# Altium integrated library STMicro-STM32F0.IntLib: 143 symbols (part 9 of 11)
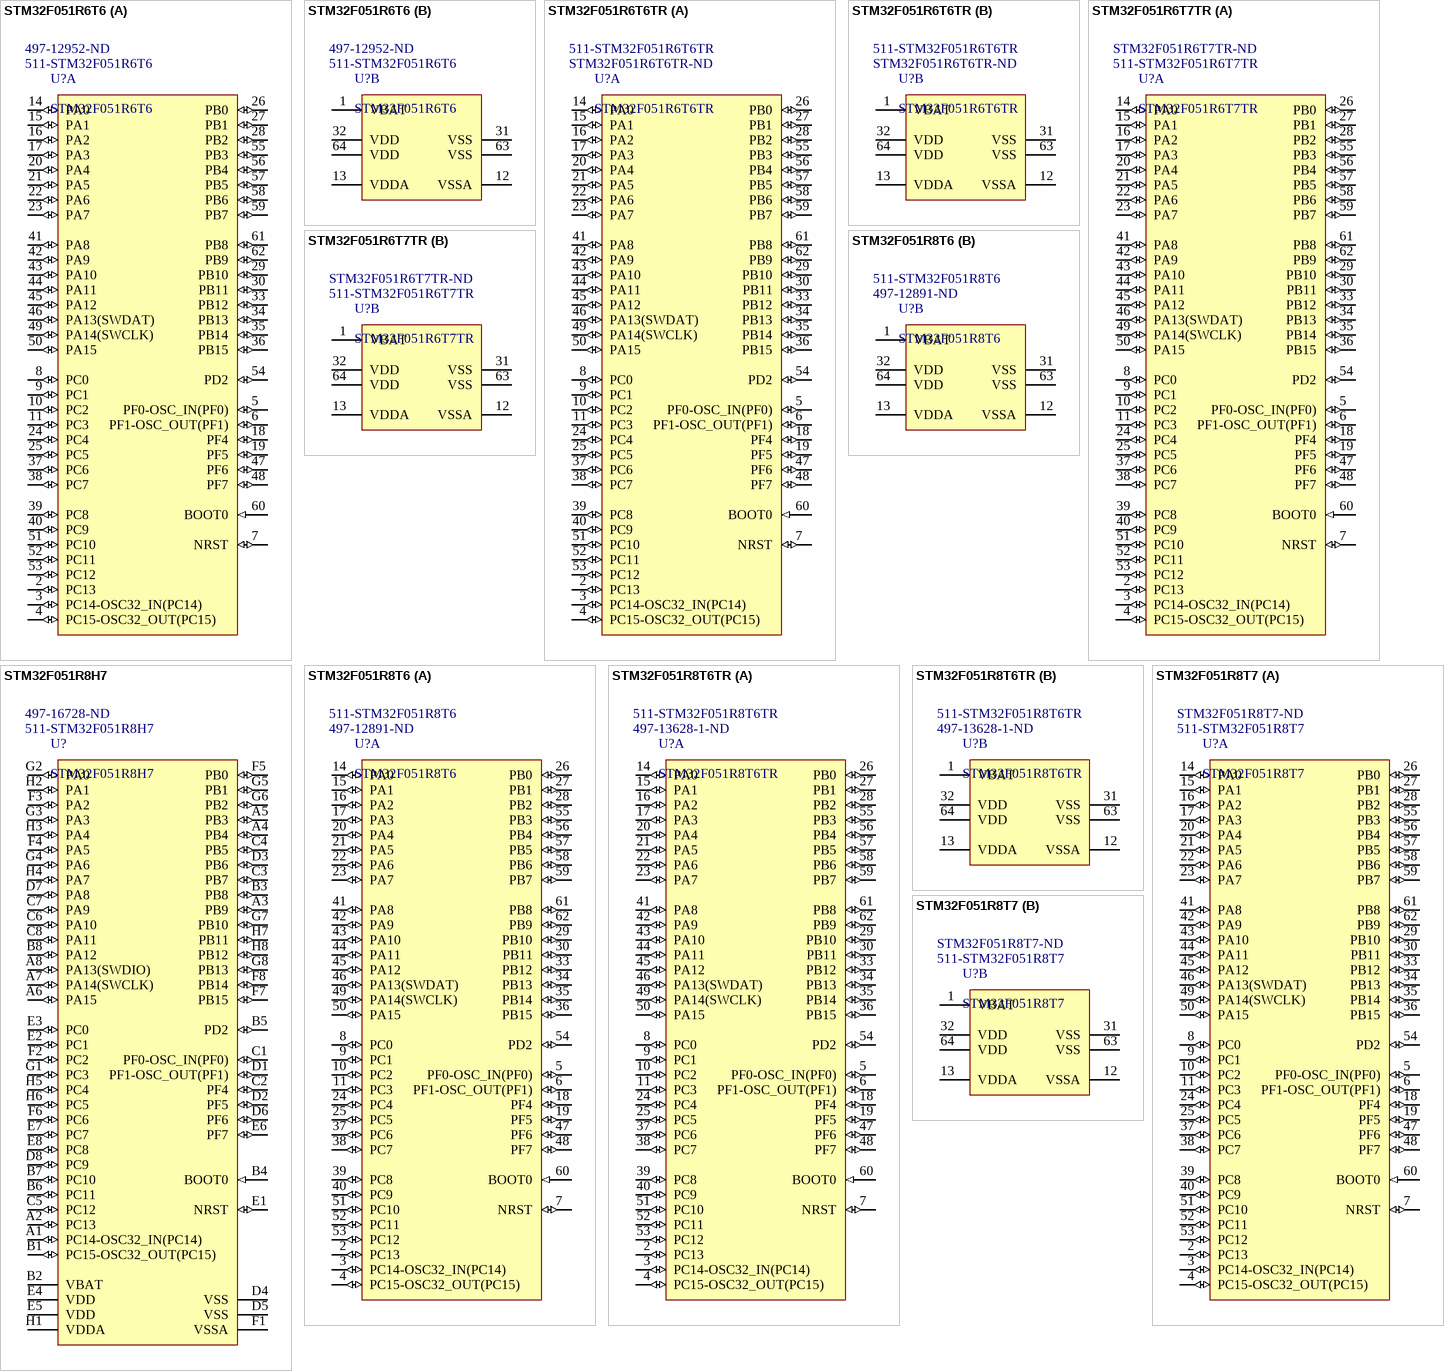
[diagram p22: symbols STM32F051R6T6 to STM32F051R8T7]

## STM32F051R8T7
designator U?  Supplier Part Number 1: 511-STM32F051R8T7  Supplier Part Number 2: STM32F051R8T7-ND
ARM Cortex-M0 32-bit MCU, 64 KB Flash, 8 KB Internal RAM, 55 I/Os, 64-pin LQFP, -40 to 105 degC, Tray; Internal RAM Size (kB): 8; Supply Voltage(Vcc) min (V): 2; FLASH Size (Prog) (kB): 64; Operating Frequency(F) (Processor speed) (MHz): 48; I/Os (High Current): 55; ComponentLink1URL: http://www.st.com/web/en/home.html; PackageVersion: Rev. 4, 06/2013; ComponentLink3Description: Package Specification; ComponentLink2URL: http://www.st.com/st-web-ui/static/active/en/resource/technical/document/datasheet/DM00039193.pdf; Mounting Technology: Surface Mount; Core: ARM Cortex-M0; ComponentLink2Description: Datasheet; Packing: Tray; PartNumber: STM32F051R8T7; PackageReference: LQFP64; PackageDescription: 64-Pin Low Profile Quad Flat Package, 10 x 10 mm Body, 0.5 mm Pitch; DatasheetVersion: Rev. 3; ComponentLink3URL: http://www.st.com/st-web-ui/static/active/en/resource/technical/document/datasheet/DM00037051.pdf; ComponentLink1Description: Manufacturer URL; Supplier 1: Mouser; Supplier 2: Digi-Key
footprint STM-LQFP64_L (QFP, 64-Leads, Body 10x10mm, Pitch 0.5mm, IPC High Density)
footprint STM-LQFP64_N (QFP, 64-Leads, Body 10x10mm, Pitch 0.5mm, IPC Medium Density)
footprint STM-LQFP64_V (Thin QFP, 64-Leads, Body 10x10mm, Pitch 0.5mm, ST Recommended)
footprint STM-LQFP64_M (QFP, 64-Leads, Body 10x10mm, Pitch 0.5mm, IPC Low Density)
part A pins: 2 PC13 (io) "PC13/RTC_TAMP1,RTC_TS,RTC_OUT,WKUP2", 3 PC14-OSC32_IN(PC14) (io) "PC14-OSC32_IN(PC14)/OSC32_IN", 4 PC15-OSC32_OUT(PC15) (io) "PC15-OSC32_OUT(PC15)/OSC32_OUT", 5 PF0-OSC_IN(PF0) (io) "PF0-OSC_IN(PF0)/OSC_IN", 6 PF1-OSC_OUT(PF1) (io) "PF1-OSC_OUT(PF1)/OSC_OUT", 7 NRST (io) "Device reset input / internal reset output (active low)", 8 PC0 (io) "PB15/SPI2_MOSI,TIM1_CH3N,TIM15_CH1N,TIM15_CH2/RTC_REFIN", 9 PC1 (io) "PC1/EVENTOUT/ADC_IN11", 10 PC2 (io) "PC2/EVENTOUT/ADC_IN12", 11 PC3 (io) "PC3/EVENTOUT/ADC_IN13", 14 PA0 (io) "PA0/USART2_CTS,TIM2_CH1_ETR,COMP1_OUT,TSC_G1_IO1/ADC_IN0,COMP1_INM6,RTC_TAMP2,WKUP1", 15 PA1 (io) "PA1/USART2_RTS,TIM2_CH2,TSC_G1_IO2,EVENTOUT/ADC_IN1,COMP1_INP", 16 PA2 (io) "PA2/USART2_TX,TIM2_CH3,TIM15_CH1,COMP2_OUT,TSC_G1_IO3/ADC_IN2,COMP2_INM6", 17 PA3 (io) "PA3/USART2_RX,TIM2_CH4,TIM15_CH2,TSC_G1_IO4/ADC_IN3,COMP2_INP", 18 PF4 (io) "PF4/EVENTOUT", 19 PF5 (io) "PF5/EVENTOUT", 20 PA4 (io) "PA4/SPI1_NSS/I2S1_WS,USART2_CK,TIM14_CH1,TSC_G2_IO1/ADC_IN4,COMP1_INM4,COMP2_INM4,DAC1_OUT", 21 PA5 (io) "PA5/SPI1_SCK/I2S1_CK,CEC,TIM2_CH1_ETR,TSC_G2_IO2/ADC_IN5,COMP1_INM5,COMP2_INM5", 22 PA6 (io) "PA6/SPI1_MISO/I2S1_MCK,TIM3_CH1,TIM1_BKIN,TIM16_CH1,COMP1_OUT,TSC_G2_IO3,EVENTOUT/ADC_IN6", 23 PA7 (io) "PA7/SPI1_MOSI/I2S1_SD,TIM3_CH2,TIM14_CH1,TIM1_CH1N,TIM17_CH1,COMP2_OUT,TSC_G2_IO4,EVENTOUT/ADC_IN7", 24 PC4 (io) "PC4/EVENTOUT/ADC_IN14", 25 PC5 (io) "PC5/TSC_G3_IO1/ADC_IN15", 26 PB0 (io) "PB0/TIM3_CH3,TIM1_CH2N,TSC_G3_IO2,EVENTOUT/ADC_IN8", 27 PB1 (io) "PB1/TIM3_CH4,TIM14_CH1,TIM1_CH3N,TSC_G3_IO3/ADC_IN9", 28 PB2 (io) "PB2/TSC_G3_IO4", 29 PB10 (io) "PB10/I2C2_SCL,CEC,TIM2_CH3,TSC_SYNC", 30 PB11 (io) "PB11/I2C2_SDA,TIM2_CH4,TSC_G6_IO1,EVENTOUT", 33 PB12 (io) "PB8/I2C1_SCL,CEC,TIM16_CH1,TSC_SYNC", 34 PB13 (io) "PB12/SPI2_NSS,TIM1_BKIN,TSC_G6_IO2,EVENTOUT", 35 PB14 (io) "PB13/SPI2_SCK,TIM1_CH1N,TSC_G6_IO3", 36 PB15 (io) "PB14/SPI2_MISO,TIM1_CH2N,TIM15_CH1,TSC_G6_IO4", 37 PC6 (io) "PC6/TIM3_CH1", 38 PC7 (io) "PC7/TIM3_CH2", 39 PC8 (io) "PC8/TIM3_CH3", 40 PC9 (io) "PC9/TIM3_CH4", 41 PA8 (io) "PA8/USART1_CK,TIM1_CH1,EVENTOUT,MCO", 42 PA9 (io) "PA9/USART1_TX,TIM1_CH2,TIM15_BKIN,TSC_G4_IO1", 43 PA10 (io) "PA10/USART1_RX,TIM1_CH3,TIM17_BKIN,TSC_G4_IO2", 44 PA11 (io) "PA11/USART1_CTS,TIM1_CH4,COMP1_OUT,TSC_G4_IO3,EVENTOUT", 45 PA12 (io) "PA12/USART1_RTS,TIM1_ETR,COMP2_OUT,TSC_G4_IO4,EVENTOUT", 46 PA13(SWDAT) (io) "PA13(SWDAT)/IR_OUT,SWDAT", 47 PF6 (io) "PF6/I2C2_SCL", 48 PF7 (io) "PF7/I2C2_SDA", 49 PA14(SWCLK) (io) "PA14(SWCLK)/USART2_TX,SWCLK", 50 PA15 (io) "PA15/SPI1_NSS/I2S1_WS,USART2_RX,TIM2_CH1_ETR,EVENTOUT", 51 PC10 (io), 52 PC11 (io), 53 PC12 (io), 54 PD2 (io) "PD2/TIM3_ETR", 55 PB3 (io) "PB3/SPI1_SCK/I2S1_CK,TIM2_CH2,TSC_G5_IO1,EVENTOUT", 56 PB4 (io) "PB4/SPI1_MISO/I2S1_MCK,TIM3_CH1,TSC_G5_IO2,EVENTOUT", 57 PB5 (io) "PB5/SPI1_MOSI,I2S1_SD,I2C1_SMBA,TIM16_BKIN,TIM3_CH2", 58 PB6 (io) "PB6/I2C1_SCL,USART1_TX,TIM16_CH1N,TSC_G5_IO3", 59 PB7 (io) "PB7/I2C1_SDA,USART1_RX,TIM17_CH1N,TSC_G5_IO4", 60 BOOT0 (in) "Boot memory selection", 61 PB8 (io) "PB8/I2C1_SCL,CEC,TIM16_CH1,TSC_SYNC", 62 PB9 (io) "PB9/I2C1_SDA,IR_OUT,TIM17_CH1,EVENTOUT"
part B pins: 1 VBAT (power) "Backup power supply", 12 VSSA (power) "Analog ground", 13 VDDA (power) "Analog power supply", 31 VSS (power) "Ground", 32 VDD (power) "Digital power supply", 63 VSS (power) "Ground", 64 VDD (power) "Digital power supply"

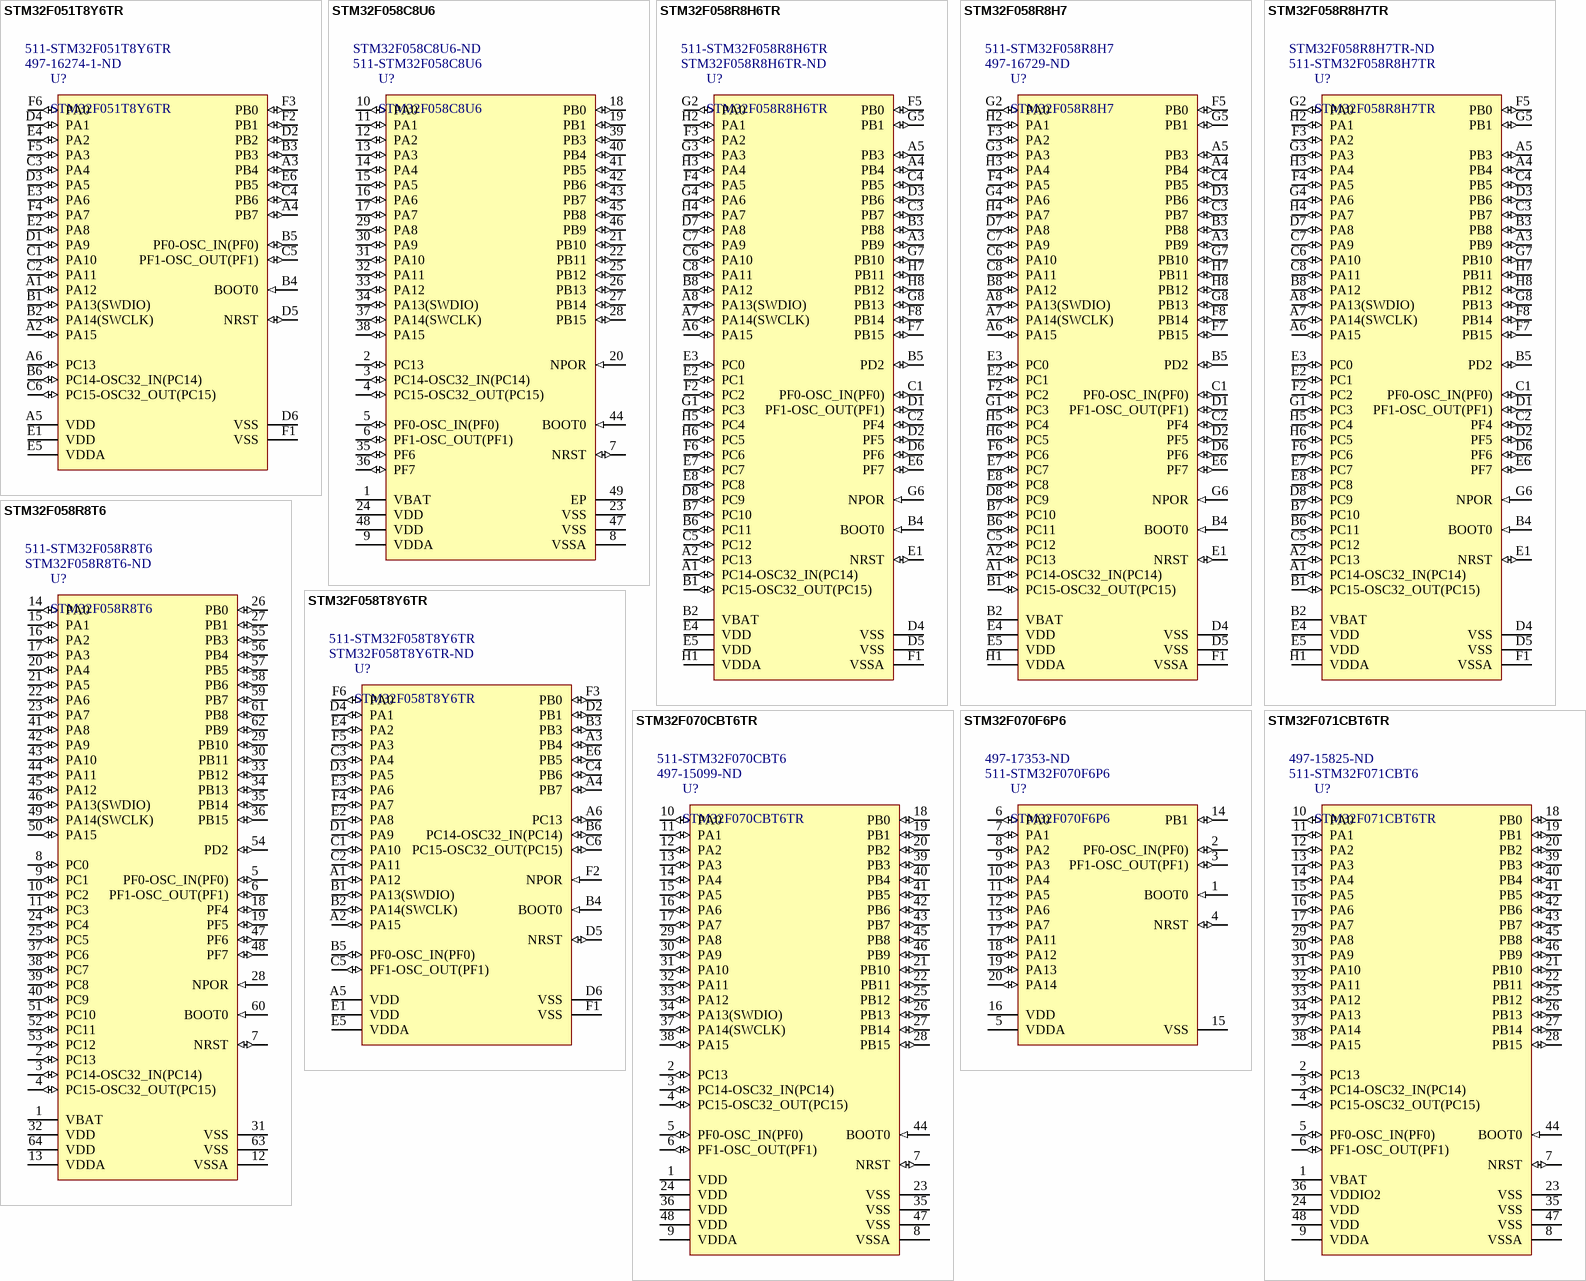
[diagram p11: symbols STM32F051T8Y6TR to STM32F071CBT6TR]

## STM32F051T8Y6TR
designator U?  Supplier Part Number 1: 497-16274-1-ND  Supplier Part Number 2: 511-STM32F051T8Y6TR
ARM Cortex-M0 32-bit MCU, 64 KB Flash, 8 KB Internal RAM, 29 I/Os, 36-Pin WLCSP, -40 to 85 degC, Tape and Reel; Operating Frequency(F) (Processor speed) (MHz): 48; Internal RAM Size (kB): 8; Supply Voltage(Vcc) min (V): 2; D/A Converter: 1; I/Os (High Current): 29; FLASH Size (Prog) (kB): 64; DatasheetVersion: Rev. 5; Package Reference: WLCSP36-2605X2703DE; ComponentLink2URL: http://www.st.com/st-web-ui/static/active/en/resource/technical/document/datasheet/DM00039193.pdf; ComponentLink1URL: http://www.st.com/; Package Description: 36-Ball Wafer Level Chip Scale Package, 2.605 x 2.703 mm Body, 0.4 mm Pitch; Packing: Tape and Reel; Mounting Technology: Surface Mount; ComponentLink2Description: Datasheet; Core: ARM Cortex-M0; ComponentLink1Description: Manufacturer URL; Supplier 1: Digi-Key; Supplier 2: Mouser
footprint STM-WLCSP36-2605X2703DE_V (BGA, 36-Balls, Body 2.7x2.61mm, Pitch 0.4mm)
pins: A1 PA12 (io) "PA12/USART1_RTS,TIM1_ETR,COMP2_OUT,TSC_G4_IO4,EVENTOUT", A2 PA15 (io) "PA15/SPI1_NSS,I2S1_WS,USART2_RX,TIM2_CH1_ETR,EVENTOUT", A3 PB4 (io) "PB4/SPI1_MISO,I2S1_MCK,TIM3_CH1,TSC_G5_IO2,EVENTOUT", A4 PB7 (io) "PB7/I2C1_SDA,USART1_RX,TIM17_CH1N,TSC_G5_IO4", A5 VDD (power) "Digital power supply", A6 PC13 (io) "PC13/RTC_TAMP1,RTC_TS,RTC_OUT,WKUP2", B1 PA13(SWDIO) (io) "PA13(SWDIO)/IR_OUT,SWDIO", B2 PA14(SWCLK) (io) "PA14(SWCLK)/USART2_TX,SWCLK", B3 PB3 (io) "PB3/SPI1_SCK,I2S1_CK,TIM2_CH2,TSC_G5_IO1,EVENTOUT", B4 BOOT0 (in) "Boot memory selection", B5 PF0-OSC_IN(PF0) (io) "PF0-OSC_IN(PF0)/OSC_IN", B6 PC14-OSC32_IN(PC14) (io) "PC14-OSC32_IN(PC14)/OSC32_IN", C1 PA10 (io) "PA10/USART1_RX,TIM1_CH3,TIM17_BKIN,TSC_G4_IO2", C2 PA11 (io) "PA11/USART1_CTS,TIM1_CH4,COMP1_OUT,TSC_G4_IO3,EVENTOUT", C3 PA4 (io) "PA4/SPI1_NSS,I2S1_WS,USART2_CK,TIM14_CH1,TSC_G2_IO1/ADC_IN4,COMP1_INM4,COMP2_INM4,DAC_OUT1", C4 PB6 (io) "PB6/I2C1_SCL,USART1_TX,TIM16_CH1N,TSC_G5_IO3", C5 PF1-OSC_OUT(PF1) (io) "PF1-OSC_OUT(PF1)/OSC_OUT", C6 PC15-OSC32_OUT(PC15) (io) "PC15-OSC32_OUT(PC15)/OSC32_OUT", D1 PA9 (io) "PA9/USART1_TX,TIM1_CH2,TIM15_BKIN,TSC_G4_IO1", D2 PB2 (io) "PB2/TSC_G3_IO4", D3 PA5 (io) "PA5/SPI1_SCK,I2S1_CK,CEC,TIM2_CH1_ETR,TSC_G2_IO2/ADC_IN5,COMP1_INM5,COMP2_INM5", D4 PA1 (io) "PA1/USART2_RTS,TIM2_CH2,TSC_G1_IO2,EVENTOUT/ADC_IN1,COMP1_INP", D5 NRST (io) "Device reset input/internal reset output(active low)", D6 VSS (power) "Ground", E1 VDD (power) "Digital power supply", E2 PA8 (io) "PA8/USART1_CK,TIM1_CH1,EVENTOUT,MCO", E3 PA6 (io) "PA6/SPI1_MISO,I2S1_MCK,TIM3_CH1,TIM1_BKIN,TIM16_CH1,COMP1_OUT,TSC_G2_IO3,EVENTOUT/ADC_IN6", E4 PA2 (io) "PA2/USART2_TX,TIM2_CH3,TIM15_CH1,COMP2_OUT,TSC_G1_IO3/ADC_IN2,COMP2_INM6", E5 VDDA (power) "Analog power supply", E6 PB5 (io) "PB5/SPI1_MOSI,I2S1_SD,I2C1_SMBA,TIM16_BKIN,TIM3_CH2", F1 VSS (power) "Ground", F2 PB1 (io) "PB1/TIM3_CH4,TIM14_CH1,TIM1_CH3N,TSC_G3_IO3/ADC_IN9", F3 PB0 (io) "PB0/TIM3_CH3,TIM1_CH2N,TSC_G3_IO2,EVENTOUT/ADC_IN8", F4 PA7 (io) "PA7/SPI1_MOSI,I2S1_SD,TIM3_CH2,TIM14_CH1,TIM1_CH1N,TIM17_CH1,COMP2_OUT,TSC_G2_IO4,EVENTOUT/ADC_IN7", F5 PA3 (io) "PA3/USART2_RX,TIM2_CH4,TIM15_CH2,TSC_G1_IO4/ADC_IN3,COMP2_INP", F6 PA0 (io) "PA0/USART2_CTS,TIM2_CH1_ETR,COMP1_OUT,TSC_G1_IO1/ADC_IN0,COMP1_INM6,RTC_TAMP2,WKUP1"

## STM32F058C8U6
designator U?  Supplier Part Number 1: 511-STM32F058C8U6  Supplier Part Number 2: STM32F058C8U6-ND
ARM Cortex-M0 32-bit MCU, 64 KB Flash, 8 KB Internal RAM, 38 I/Os, 48-Pin UFQFPN, -40 to 85 degC, Tray; D/A Converter: 2; Internal RAM Size (kB): 8; FLASH Size (Prog) (kB): 64; Operating Frequency(F) (Processor speed) (MHz): 48; I/Os (High Current): 39; Supply Voltage(Vcc) min (V): 1.65; ComponentLink1Description: Manufacturer URL; Package Description: 48-Pin Ultra Thin Fine Pitch Quad Flat No-Lead, 7 x 7 x 0.6 mm Body, 0.5 mm Pitch, Exposed Pad; Packing: Tray; Package Reference: UFQFPN48; Core: ARM Cortex-M0; ComponentLink2Description: Datasheet; Mounting Technology: Surface Mount; ComponentLink2URL: http://www.st.com/st-web-ui/static/active/en/resource/technical/document/datasheet/DM00059126.pdf; DatasheetVersion: Rev. 2; ComponentLink1URL: http://www.st.com/; Supplier 1: Mouser; Supplier 2: Digi-Key
footprint STM-UFQFPN48_L (QFN, 48-Leads, Body 7.1x7.1mm, Pitch 0.5mm, Thermal Pad 5.6x5.6mm, IPC High Density)
footprint STM-UFQFPN48_N (QFN, 48-Leads, Body 7.1x7.1mm, Pitch 0.5mm, Thermal Pad 5.6x5.6mm, IPC Medium Density)
footprint STM-UFQFPN48_M (QFN, 48-Leads, Body 7.1x7.1mm, Pitch 0.5mm, Thermal Pad 5.6x5.6mm, IPC Low Density)
pins: 1 VBAT (power) "Backup power supply", 2 PC13 (io) "PC13/RTC_TAMP1,RTC_TS,RTC_OUT,WKUP2", 3 PC14-OSC32_IN(PC14) (io) "PC14-OSC32_IN(PC14)/OSC32_IN", 4 PC15-OSC32_OUT(PC15) (io) "PC15-OSC32_OUT(PC15)/OSC32_OUT", 5 PF0-OSC_IN(PF0) (io) "PF0-OSC_IN(PF0)/OSC_IN", 6 PF1-OSC_OUT(PF1) (io) "PF1-OSC_OUT(PF1)/OSC_OUT", 7 NRST (io) "Device reset input/internal reset output(active low)", 8 VSSA (power) "Analog ground", 9 VDDA (power) "Analog power supply", 10 PA0 (io) "PA0/USART2_CTS,TIM2_CH1_ETR,COMP1_OUT,TSC_G1_IO1/ADC_IN0,COMP1_INM6,RTC_TAMP2,WKUP1", 11 PA1 (io) "PA1/USART2_RTS,TIM2_CH2,TSC_G1_IO2,EVENTOUT/ADC_IN1,COMP1_INP", 12 PA2 (io) "PA2/USART2_TX,TIM2_CH3,TIM15_CH1,COMP2_OUT,TSC_G1_IO3/ADC_IN2,COMP2_INM6", 13 PA3 (io) "PA3/USART2_RX,TIM2_CH4,TIM15_CH2,TSC_G1_IO4/ADC_IN3,COMP2_INP", 14 PA4 (io) "PA4/SPI1_NSS,I2S1_WS,USART2_CK,TIM14_CH1,TSC_G2_IO1/ADC_IN4,COMP1_INM4,COMP2_INM4,DAC_OUT1", 15 PA5 (io) "PA5/SPI1_SCK,I2S1_CK,CEC,TIM2_CH1_ETR,TSC_G2_IO2/ADC_IN5,COMP1_INM5,COMP2_INM5", 16 PA6 (io) "PA6/SPI1_MISO,I2S1_MCK,TIM3_CH1,TIM1_BKIN,TIM16_CH1,COMP1_OUT,TSC_G2_IO3,EVENTOUT/ADC_IN6", 17 PA7 (io) "PA7/SPI1_MOSI,I2S1_SD,TIM3_CH2,TIM14_CH1,TIM1_CH1N,TIM17_CH1,COMP2_OUT,TSC_G2_IO4,EVENTOUT/ADC_IN7", 18 PB0 (io) "PB0/TIM3_CH3,TIM1_CH2N,TSC_G3_IO2,EVENTOUT/ADC_IN8", 19 PB1 (io) "PB1/TIM3_CH4,TIM14_CH1,TIM1_CH3N,TSC_G3_IO3/ADC_IN9", 20 NPOR (in) "Device power-on reset input(active low)", 21 PB10 (io) "PB10/I2C2_SCL,CEC,TIM2_CH3,TSC_SYNC", 22 PB11 (io) "PB11/I2C2_SDA,TIM2_CH4,TSC_G6_IO1,EVENTOUT", 23 VSS (power) "Ground", 24 VDD (power) "Digital power supply", 25 PB12 (io) "PB12/SPI2_NSS,TIM1_BKIN,TSC_G6_IO2,EVENTOUT", 26 PB13 (io) "PB13/SPI2_SCK,TIM1_CH1N,TSC_G6_IO3", 27 PB14 (io) "PB14/SPI2_MISO,TIM1_CH2N,TIM15_CH1,TSC_G6_IO4", 28 PB15 (io) "PB15/SPI2_MOSI,TIM1_CH3N,TIM15_CH1N,TIM15_CH2/RTC_REFIN", 29 PA8 (io) "PA8/USART1_CK,TIM1_CH1,EVENTOUT,MCO", 30 PA9 (io) "PA9/USART1_TX,TIM1_CH2,TIM15_BKIN,TSC_G4_IO1", 31 PA10 (io) "PA10/USART1_RX,TIM1_CH3,TIM17_BKIN,TSC_G4_IO2", 32 PA11 (io) "PA11/USART1_CTS,TIM1_CH4,COMP1_OUT,TSC_G4_IO3,EVENTOUT", 33 PA12 (io) "PA12/USART1_RTS,TIM1_ETR,COMP2_OUT,TSC_G4_IO4,EVENTOUT", 34 PA13(SWDIO) (io) "PA13(SWDIO)/IR_OUT,SWDIO", 35 PF6 (io) "PF6/I2C2_SCL", 36 PF7 (io) "PF7/I2C2_SDA", 37 PA14(SWCLK) (io) "PA14/USART2_TX,SWCLK", 38 PA15 (io) "PA15(SWCLK)/SPI1_NSS,I2S1_WS,USART2_RX,TIM2_CH1_ETR,EVENTOUT", 39 PB3 (io) "PB3/SPI1_SCK,I2S1_CK,TIM2_CH2,TSC_G5_IO1,EVENTOUT", 40 PB4 (io) "PB4/SPI1_MISO,I2S1_MCK,TIM3_CH1,TSC_G5_IO2,EVENTOUT", 41 PB5 (io) "PB5/SPI1_MOSI,I2S1_SD,I2C1_SMBA,TIM16_BKIN,TIM3_CH2", 42 PB6 (io) "PB6/I2C1_SCL,USART1_TX,TIM16_CH1N,TSC_G5_IO3", 43 PB7 (io) "PB7/I2C1_SDA,USART1_RX,TIM17_CH1N,TSC_G5_IO4", 44 BOOT0 (in) "Boot memory selection", 45 PB8 (io) "PB8/I2C1_SCL,CEC,TIM16_CH1,TSC_SYNC", 46 PB9 (io) "PB9/I2C1_SDA,IR_OUT,TIM17_CH1,EVENTOUT", 47 VSS (power) "Ground", 48 VDD (power) "Digital power supply", 49 EP (power)

## STM32F058R8H6TR
designator U?  Supplier Part Number 1: STM32F058R8H6TR-ND  Supplier Part Number 2: 511-STM32F058R8H6TR
ARM Cortex-M0 32-bit MCU, 64 KB Flash, 8 KB Internal RAM, 54 I/Os, 64-Pin UFBGA, -40 to 85 degC, Tape and Reel; Supply Voltage(Vcc) min (V): 1.65; Internal RAM Size (kB): 8; Operating Frequency(F) (Processor speed) (MHz): 48; I/Os (High Current): 55; FLASH Size (Prog) (kB): 64; D/A Converter: 2; Package Description: 64-Ball Ultra Thin Fine Profile Ball Grid Array, 5 x 5 mm Body, 0.5 mm Pitch; DatasheetVersion: Rev. 2; Packing: Tape and Reel; Mounting Technology: Surface Mount; ComponentLink1URL: http://www.st.com/; Core: ARM Cortex-M0; ComponentLink2URL: http://www.st.com/st-web-ui/static/active/en/resource/technical/document/datasheet/DM00059126.pdf; Package Reference: UFBGA64; ComponentLink1Description: Manufacturer URL; ComponentLink2Description: Datasheet; Supplier 1: Digikey; Supplier 2: Mouser
footprint STM-UFBGA64_V (BGA, 64-Balls, Body 5x5mm, Pitch 0.5mm)
pins: A1 PC14-OSC32_IN(PC14) (io) "PC14-OSC32_IN(PC14)/OSC32_IN", A2 PC13 (io) "PC13/RTC_TAMP1,RTC_TS,RTC_OUT,WKUP2", A3 PB9 (io) "PB9/I2C1_SDA,IR_OUT,TIM17_CH1,EVENTOUT", A4 PB4 (io) "PB4/SPI1_MISO,I2S1_MCK,TIM3_CH1,TSC_G5_IO2,EVENTOUT", A5 PB3 (io) "PB3/SPI1_SCK,I2S1_CK,TIM2_CH2,TSC_G5_IO1,EVENTOUT", A6 PA15 (io) "PA15/SPI1_NSS,I2S1_WS,USART2_RX,TIM2_CH1_ETR,EVENTOUT", A7 PA14(SWCLK) (io) "PA14(SWCLK)/USART2_TX,SWCLK", A8 PA13(SWDIO) (io) "PA13(SWDIO)/IR_OUT,SWDIO", B1 PC15-OSC32_OUT(PC15) (io) "PC15-OSC32_OUT(PC15)/OSC32_OUT", B2 VBAT (power) "Backup power supply", B3 PB8 (io) "PB8/I2C1_SCL,CEC,TIM16_CH1,TSC_SYNC", B4 BOOT0 (in) "Boot memory selection", B5 PD2 (io) "PD2/TIM3_ETR", B6 PC11 (io), B7 PC10 (io), B8 PA12 (io) "PA12/USART1_RTS,TIM1_ETR,COMP2_OUT,TSC_G4_IO4,EVENTOUT", C1 PF0-OSC_IN(PF0) (io) "PF0-OSC_IN(PF0)/OSC_IN", C2 PF4 (io) "PF4/EVENTOUT", C3 PB7 (io) "PB7/I2C1_SDA,USART1_RX,TIM17_CH1N,TSC_G5_IO4", C4 PB5 (io) "PB5/SPI1_MOSI,I2S1_SD,I2C1_SMBA,TIM16_BKIN,TIM3_CH2", C5 PC12 (io), C6 PA10 (io) "PA10/USART1_RX,TIM1_CH3,TIM17_BKIN,TSC_G4_IO2", C7 PA9 (io) "PA9/USART1_TX,TIM1_CH2,TIM15_BKIN,TSC_G4_IO1", C8 PA11 (io) "PA11/USART1_CTS,TIM1_CH4,COMP1_OUT,TSC_G4_IO3,EVENTOUT", D1 PF1-OSC_OUT(PF1) (io) "PF1-OSC_OUT(PF1)/OSC_OUT", D2 PF5 (io) "PF5/EVENTOUT", D3 PB6 (io) "PB6/I2C1_SCL,USART1_TX,TIM16_CH1N,TSC_G5_IO3", D4 VSS (power) "Ground", D5 VSS (power) "Ground", D6 PF6 (io) "PF6/I2C2_SCL", D7 PA8 (io) "PA8/USART1_CK,TIM1_CH1,EVENTOUT,MCO", D8 PC9 (io) "PC9/TIM3_CH4", E1 NRST (io) "Device reset input/internal reset output(active low)", E2 PC1 (io) "PC1/EVENTOUT/ADC_IN11", E3 PC0 (io) "PC0/EVENTOUT/ADC_IN10", E4 VDD (power) "Digital power supply", E5 VDD (power) "Digital power supply", E6 PF7 (io) "PF7/I2C2_SDA", E7 PC7 (io) "PC7/TIM3_CH2", E8 PC8 (io) "PC8/TIM3_CH3", F1 VSSA (power) "Analog ground", F2 PC2 (io) "PC2/EVENTOUT/ADC_IN12", F3 PA2 (io) "PA2/USART2_TX,TIM2_CH3,TIM15_CH1,COMP2_OUT,TSC_G1_IO3/ADC_IN2,COMP2_INM6", F4 PA5 (io) "PA5/SPI1_SCK,I2S1_CK,CEC,TIM2_CH1_ETR,TSC_G2_IO2/ADC_IN5,COMP1_INM5,COMP2_INM5", F5 PB0 (io) "PB0/TIM3_CH3,TIM1_CH2N,TSC_G3_IO2,EVENTOUT/ADC_IN8", F6 PC6 (io) "PC6/TIM3_CH1", F7 PB15 (io) "PB15/SPI2_MOSI,TIM1_CH3N,TIM15_CH1N,TIM15_CH2/RTC_REFIN", F8 PB14 (io) "PB14/SPI2_MISO,TIM1_CH2N,TIM15_CH1,TSC_G6_IO4", G1 PC3 (io) "PC3/EVENTOUT/ADC_IN13", G2 PA0 (io) "PA0/USART2_CTS,TIM2_CH1_ETR,COMP1_OUT,TSC_G1_IO1/ADC_IN0,COMP1_INM6,RTC_TAMP2,WKUP1", G3 PA3 (io) "PA3/USART2_RX,TIM2_CH4,TIM15_CH2,TSC_G1_IO4/ADC_IN3,COMP2_INP", G4 PA6 (io) "PA6/SPI1_MISO,I2S1_MCK,TIM3_CH1,TIM1_BKIN,TIM16_CH1,COMP1_OUT,TSC_G2_IO3,EVENTOUT/ADC_IN6", G5 PB1 (io) "PB1/TIM3_CH4,TIM14_CH1,TIM1_CH3N,TSC_G3_IO3/ADC_IN9", G6 NPOR (in) "Device power-on reset input (active low)", G7 PB10 (io) "PB10/I2C2_SCL,CEC,TIM2_CH3,TSC_SYNC", G8 PB13 (io) "PB13/SPI2_SCK,TIM1_CH1N,TSC_G6_IO3", H1 VDDA (power) "Analog power supply", H2 PA1 (io) "PA1/USART2_RTS,TIM2_CH2,TSC_G1_IO2,EVENTOUT/ADC_IN1,COMP1_INP", H3 PA4 (io) "PA4/SPI1_NSS,I2S1_WS,USART2_CK,TIM14_CH1,TSC_G2_IO1/ADC_IN4,COMP1_INM4,COMP2_INM4,DAC_OUT1", H4 PA7 (io) "PA7/SPI1_MOSI,I2S1_SD,TIM3_CH2,TIM14_CH1,TIM1_CH1N,TIM17_CH1,COMP2_OUT,TSC_G2_IO4,EVENTOUT/ADC_IN7", H5 PC4 (io) "PC4/EVENTOUT/ADC_IN14", H6 PC5 (io) "PC5/TSC_G3_IO1/ADC_IN15", H7 PB11 (io) "PB11/I2C2_SDA,TIM2_CH4,TSC_G6_IO1,EVENTOUT", H8 PB12 (io) "PB12/SPI2_NSS,TIM1_BKIN,TSC_G6_IO2,EVENTOUT"

## STM32F058R8H7
designator U?  Supplier Part Number 1: 497-16729-ND  Supplier Part Number 2: 511-STM32F058R8H7
ARM Cortex-M0 32-bit MCU, 64 KB Flash, 8 KB Internal RAM, 54 I/Os, 64-Pin UFBGA, -40 to 105 degC, Tray; D/A Converter: 2; Internal RAM Size (kB): 8; I/Os (High Current): 55; Operating Frequency(F) (Processor speed) (MHz): 48; FLASH Size (Prog) (kB): 64; Supply Voltage(Vcc) min (V): 1.65; ComponentLink2Description: Datasheet; Package Description: 64-Ball Ultra Thin Fine Profile Ball Grid Array, 5 x 5 mm Body, 0.5 mm Pitch; ComponentLink1Description: Manufacturer URL; ComponentLink1URL: http://www.st.com/; Package Reference: UFBGA64; ComponentLink2URL: http://www.st.com/st-web-ui/static/active/en/resource/technical/document/datasheet/DM00059126.pdf; Packing: Tray; Mounting Technology: Surface Mount; DatasheetVersion: Rev. 2; Core: ARM Cortex-M0; Supplier 1: Digi-Key; Supplier 2: Mouser
footprint STM-UFBGA64_V (BGA, 64-Balls, Body 5x5mm, Pitch 0.5mm)
pins: A1 PC14-OSC32_IN(PC14) (io) "PC14-OSC32_IN(PC14)/OSC32_IN", A2 PC13 (io) "PC13/RTC_TAMP1,RTC_TS,RTC_OUT,WKUP2", A3 PB9 (io) "PB9/I2C1_SDA,IR_OUT,TIM17_CH1,EVENTOUT", A4 PB4 (io) "PB4/SPI1_MISO,I2S1_MCK,TIM3_CH1,TSC_G5_IO2,EVENTOUT", A5 PB3 (io) "PB3/SPI1_SCK,I2S1_CK,TIM2_CH2,TSC_G5_IO1,EVENTOUT", A6 PA15 (io) "PA15/SPI1_NSS,I2S1_WS,USART2_RX,TIM2_CH1_ETR,EVENTOUT", A7 PA14(SWCLK) (io) "PA14(SWCLK)/USART2_TX,SWCLK", A8 PA13(SWDIO) (io) "PA13(SWDIO)/IR_OUT,SWDIO", B1 PC15-OSC32_OUT(PC15) (io) "PC15-OSC32_OUT(PC15)/OSC32_OUT", B2 VBAT (power) "Backup power supply", B3 PB8 (io) "PB8/I2C1_SCL,CEC,TIM16_CH1,TSC_SYNC", B4 BOOT0 (in) "Boot memory selection", B5 PD2 (io) "PD2/TIM3_ETR", B6 PC11 (io), B7 PC10 (io), B8 PA12 (io) "PA12/USART1_RTS,TIM1_ETR,COMP2_OUT,TSC_G4_IO4,EVENTOUT", C1 PF0-OSC_IN(PF0) (io) "PF0-OSC_IN(PF0)/OSC_IN", C2 PF4 (io) "PF4/EVENTOUT", C3 PB7 (io) "PB7/I2C1_SDA,USART1_RX,TIM17_CH1N,TSC_G5_IO4", C4 PB5 (io) "PB5/SPI1_MOSI,I2S1_SD,I2C1_SMBA,TIM16_BKIN,TIM3_CH2", C5 PC12 (io), C6 PA10 (io) "PA10/USART1_RX,TIM1_CH3,TIM17_BKIN,TSC_G4_IO2", C7 PA9 (io) "PA9/USART1_TX,TIM1_CH2,TIM15_BKIN,TSC_G4_IO1", C8 PA11 (io) "PA11/USART1_CTS,TIM1_CH4,COMP1_OUT,TSC_G4_IO3,EVENTOUT", D1 PF1-OSC_OUT(PF1) (io) "PF1-OSC_OUT(PF1)/OSC_OUT", D2 PF5 (io) "PF5/EVENTOUT", D3 PB6 (io) "PB6/I2C1_SCL,USART1_TX,TIM16_CH1N,TSC_G5_IO3", D4 VSS (power) "Ground", D5 VSS (power) "Ground", D6 PF6 (io) "PF6/I2C2_SCL", D7 PA8 (io) "PA8/USART1_CK,TIM1_CH1,EVENTOUT,MCO", D8 PC9 (io) "PC9/TIM3_CH4", E1 NRST (io) "Device reset input/internal reset output(active low)", E2 PC1 (io) "PC1/EVENTOUT/ADC_IN11", E3 PC0 (io) "PC0/EVENTOUT/ADC_IN10", E4 VDD (power) "Digital power supply", E5 VDD (power) "Digital power supply", E6 PF7 (io) "PF7/I2C2_SDA", E7 PC7 (io) "PC7/TIM3_CH2", E8 PC8 (io) "PC8/TIM3_CH3", F1 VSSA (power) "Analog ground", F2 PC2 (io) "PC2/EVENTOUT/ADC_IN12", F3 PA2 (io) "PA2/USART2_TX,TIM2_CH3,TIM15_CH1,COMP2_OUT,TSC_G1_IO3/ADC_IN2,COMP2_INM6", F4 PA5 (io) "PA5/SPI1_SCK,I2S1_CK,CEC,TIM2_CH1_ETR,TSC_G2_IO2/ADC_IN5,COMP1_INM5,COMP2_INM5", F5 PB0 (io) "PB0/TIM3_CH3,TIM1_CH2N,TSC_G3_IO2,EVENTOUT/ADC_IN8", F6 PC6 (io) "PC6/TIM3_CH1", F7 PB15 (io) "PB15/SPI2_MOSI,TIM1_CH3N,TIM15_CH1N,TIM15_CH2/RTC_REFIN", F8 PB14 (io) "PB14/SPI2_MISO,TIM1_CH2N,TIM15_CH1,TSC_G6_IO4", G1 PC3 (io) "PC3/EVENTOUT/ADC_IN13", G2 PA0 (io) "PA0/USART2_CTS,TIM2_CH1_ETR,COMP1_OUT,TSC_G1_IO1/ADC_IN0,COMP1_INM6,RTC_TAMP2,WKUP1", G3 PA3 (io) "PA3/USART2_RX,TIM2_CH4,TIM15_CH2,TSC_G1_IO4/ADC_IN3,COMP2_INP", G4 PA6 (io) "PA6/SPI1_MISO,I2S1_MCK,TIM3_CH1,TIM1_BKIN,TIM16_CH1,COMP1_OUT,TSC_G2_IO3,EVENTOUT/ADC_IN6", G5 PB1 (io) "PB1/TIM3_CH4,TIM14_CH1,TIM1_CH3N,TSC_G3_IO3/ADC_IN9", G6 NPOR (in) "Device power-on reset input (active low)", G7 PB10 (io) "PB10/I2C2_SCL,CEC,TIM2_CH3,TSC_SYNC", G8 PB13 (io) "PB13/SPI2_SCK,TIM1_CH1N,TSC_G6_IO3", H1 VDDA (power) "Analog power supply", H2 PA1 (io) "PA1/USART2_RTS,TIM2_CH2,TSC_G1_IO2,EVENTOUT/ADC_IN1,COMP1_INP", H3 PA4 (io) "PA4/SPI1_NSS,I2S1_WS,USART2_CK,TIM14_CH1,TSC_G2_IO1/ADC_IN4,COMP1_INM4,COMP2_INM4,DAC_OUT1", H4 PA7 (io) "PA7/SPI1_MOSI,I2S1_SD,TIM3_CH2,TIM14_CH1,TIM1_CH1N,TIM17_CH1,COMP2_OUT,TSC_G2_IO4,EVENTOUT/ADC_IN7", H5 PC4 (io) "PC4/EVENTOUT/ADC_IN14", H6 PC5 (io) "PC5/TSC_G3_IO1/ADC_IN15", H7 PB11 (io) "PB11/I2C2_SDA,TIM2_CH4,TSC_G6_IO1,EVENTOUT", H8 PB12 (io) "PB12/SPI2_NSS,TIM1_BKIN,TSC_G6_IO2,EVENTOUT"

## STM32F058R8H7TR
designator U?  Supplier Part Number 1: 511-STM32F058R8H7TR  Supplier Part Number 2: STM32F058R8H7TR-ND
ARM Cortex-M0 32-bit MCU, 64 KB Flash, 8 KB Internal RAM, 54 I/Os, 64-Pin UFBGA, -40 to 105 degC, Tape and Reel; I/Os (High Current): 55; Operating Frequency(F) (Processor speed) (MHz): 48; Internal RAM Size (kB): 8; Supply Voltage(Vcc) min (V): 1.65; FLASH Size (Prog) (kB): 64; D/A Converter: 2; ComponentLink1URL: http://www.st.com/; ComponentLink1Description: Manufacturer URL; Core: ARM Cortex-M0; Package Reference: UFBGA64; Mounting Technology: Surface Mount; Package Description: 64-Ball Ultra Thin Fine Profile Ball Grid Array, 5 x 5 mm Body, 0.5 mm Pitch; Packing: Tape and Reel; ComponentLink2Description: Datasheet; ComponentLink2URL: http://www.st.com/st-web-ui/static/active/en/resource/technical/document/datasheet/DM00059126.pdf; DatasheetVersion: Rev. 2; Supplier 1: Mouser; Supplier 2: Digikey
footprint STM-UFBGA64_V (BGA, 64-Balls, Body 5x5mm, Pitch 0.5mm)
pins: A1 PC14-OSC32_IN(PC14) (io) "PC14-OSC32_IN(PC14)/OSC32_IN", A2 PC13 (io) "PC13/RTC_TAMP1,RTC_TS,RTC_OUT,WKUP2", A3 PB9 (io) "PB9/I2C1_SDA,IR_OUT,TIM17_CH1,EVENTOUT", A4 PB4 (io) "PB4/SPI1_MISO,I2S1_MCK,TIM3_CH1,TSC_G5_IO2,EVENTOUT", A5 PB3 (io) "PB3/SPI1_SCK,I2S1_CK,TIM2_CH2,TSC_G5_IO1,EVENTOUT", A6 PA15 (io) "PA15/SPI1_NSS,I2S1_WS,USART2_RX,TIM2_CH1_ETR,EVENTOUT", A7 PA14(SWCLK) (io) "PA14(SWCLK)/USART2_TX,SWCLK", A8 PA13(SWDIO) (io) "PA13(SWDIO)/IR_OUT,SWDIO", B1 PC15-OSC32_OUT(PC15) (io) "PC15-OSC32_OUT(PC15)/OSC32_OUT", B2 VBAT (power) "Backup power supply", B3 PB8 (io) "PB8/I2C1_SCL,CEC,TIM16_CH1,TSC_SYNC", B4 BOOT0 (in) "Boot memory selection", B5 PD2 (io) "PD2/TIM3_ETR", B6 PC11 (io), B7 PC10 (io), B8 PA12 (io) "PA12/USART1_RTS,TIM1_ETR,COMP2_OUT,TSC_G4_IO4,EVENTOUT", C1 PF0-OSC_IN(PF0) (io) "PF0-OSC_IN(PF0)/OSC_IN", C2 PF4 (io) "PF4/EVENTOUT", C3 PB7 (io) "PB7/I2C1_SDA,USART1_RX,TIM17_CH1N,TSC_G5_IO4", C4 PB5 (io) "PB5/SPI1_MOSI,I2S1_SD,I2C1_SMBA,TIM16_BKIN,TIM3_CH2", C5 PC12 (io), C6 PA10 (io) "PA10/USART1_RX,TIM1_CH3,TIM17_BKIN,TSC_G4_IO2", C7 PA9 (io) "PA9/USART1_TX,TIM1_CH2,TIM15_BKIN,TSC_G4_IO1", C8 PA11 (io) "PA11/USART1_CTS,TIM1_CH4,COMP1_OUT,TSC_G4_IO3,EVENTOUT", D1 PF1-OSC_OUT(PF1) (io) "PF1-OSC_OUT(PF1)/OSC_OUT", D2 PF5 (io) "PF5/EVENTOUT", D3 PB6 (io) "PB6/I2C1_SCL,USART1_TX,TIM16_CH1N,TSC_G5_IO3", D4 VSS (power) "Ground", D5 VSS (power) "Ground", D6 PF6 (io) "PF6/I2C2_SCL", D7 PA8 (io) "PA8/USART1_CK,TIM1_CH1,EVENTOUT,MCO", D8 PC9 (io) "PC9/TIM3_CH4", E1 NRST (io) "Device reset input/internal reset output(active low)", E2 PC1 (io) "PC1/EVENTOUT/ADC_IN11", E3 PC0 (io) "PC0/EVENTOUT/ADC_IN10", E4 VDD (power) "Digital power supply", E5 VDD (power) "Digital power supply", E6 PF7 (io) "PF7/I2C2_SDA", E7 PC7 (io) "PC7/TIM3_CH2", E8 PC8 (io) "PC8/TIM3_CH3", F1 VSSA (power) "Analog ground", F2 PC2 (io) "PC2/EVENTOUT/ADC_IN12", F3 PA2 (io) "PA2/USART2_TX,TIM2_CH3,TIM15_CH1,COMP2_OUT,TSC_G1_IO3/ADC_IN2,COMP2_INM6", F4 PA5 (io) "PA5/SPI1_SCK,I2S1_CK,CEC,TIM2_CH1_ETR,TSC_G2_IO2/ADC_IN5,COMP1_INM5,COMP2_INM5", F5 PB0 (io) "PB0/TIM3_CH3,TIM1_CH2N,TSC_G3_IO2,EVENTOUT/ADC_IN8", F6 PC6 (io) "PC6/TIM3_CH1", F7 PB15 (io) "PB15/SPI2_MOSI,TIM1_CH3N,TIM15_CH1N,TIM15_CH2/RTC_REFIN", F8 PB14 (io) "PB14/SPI2_MISO,TIM1_CH2N,TIM15_CH1,TSC_G6_IO4", G1 PC3 (io) "PC3/EVENTOUT/ADC_IN13", G2 PA0 (io) "PA0/USART2_CTS,TIM2_CH1_ETR,COMP1_OUT,TSC_G1_IO1/ADC_IN0,COMP1_INM6,RTC_TAMP2,WKUP1", G3 PA3 (io) "PA3/USART2_RX,TIM2_CH4,TIM15_CH2,TSC_G1_IO4/ADC_IN3,COMP2_INP", G4 PA6 (io) "PA6/SPI1_MISO,I2S1_MCK,TIM3_CH1,TIM1_BKIN,TIM16_CH1,COMP1_OUT,TSC_G2_IO3,EVENTOUT/ADC_IN6", G5 PB1 (io) "PB1/TIM3_CH4,TIM14_CH1,TIM1_CH3N,TSC_G3_IO3/ADC_IN9", G6 NPOR (in) "Device power-on reset input (active low)", G7 PB10 (io) "PB10/I2C2_SCL,CEC,TIM2_CH3,TSC_SYNC", G8 PB13 (io) "PB13/SPI2_SCK,TIM1_CH1N,TSC_G6_IO3", H1 VDDA (power) "Analog power supply", H2 PA1 (io) "PA1/USART2_RTS,TIM2_CH2,TSC_G1_IO2,EVENTOUT/ADC_IN1,COMP1_INP", H3 PA4 (io) "PA4/SPI1_NSS,I2S1_WS,USART2_CK,TIM14_CH1,TSC_G2_IO1/ADC_IN4,COMP1_INM4,COMP2_INM4,DAC_OUT1", H4 PA7 (io) "PA7/SPI1_MOSI,I2S1_SD,TIM3_CH2,TIM14_CH1,TIM1_CH1N,TIM17_CH1,COMP2_OUT,TSC_G2_IO4,EVENTOUT/ADC_IN7", H5 PC4 (io) "PC4/EVENTOUT/ADC_IN14", H6 PC5 (io) "PC5/TSC_G3_IO1/ADC_IN15", H7 PB11 (io) "PB11/I2C2_SDA,TIM2_CH4,TSC_G6_IO1,EVENTOUT", H8 PB12 (io) "PB12/SPI2_NSS,TIM1_BKIN,TSC_G6_IO2,EVENTOUT"

## STM32F058R8T6
designator U?  Supplier Part Number 1: STM32F058R8T6-ND  Supplier Part Number 2: 511-STM32F058R8T6
ARM Cortex-M0 32-bit MCU, 64 KB Flash, 8 KB Internal RAM, 54 I/Os, 64-Pin LQFP, -40 to 85 degC, Tray; FLASH Size (Prog) (kB): 64; Supply Voltage(Vcc) min (V): 1.65; Operating Frequency(F) (Processor speed) (MHz): 48; I/Os (High Current): 55; D/A Converter: 2; Internal RAM Size (kB): 8; ComponentLink2Description: Datasheet; ComponentLink1Description: Manufacturer URL; DatasheetVersion: Rev. 2; ComponentLink1URL: http://www.st.com/; ComponentLink2URL: http://www.st.com/st-web-ui/static/active/en/resource/technical/document/datasheet/DM00059126.pdf; Package Reference: LQFP64; Core: ARM Cortex-M0; Mounting Technology: Surface Mount; Package Description: 64-Pin Low-profile Quad Flat Package, Body 10 x 10 mm, Pitch 0.5 mm; Packing: Tray; Supplier 1: Digi-Key; Supplier 2: Mouser
footprint STM-LQFP64_N (QFP, 64-Leads, Body 10x10mm, Pitch 0.5mm, IPC Medium Density)
footprint STM-LQFP64_M (QFP, 64-Leads, Body 10x10mm, Pitch 0.5mm, IPC Low Density)
footprint STM-LQFP64_L (QFP, 64-Leads, Body 10x10mm, Pitch 0.5mm, IPC High Density)
pins: 1 VBAT (power) "Backup power supply", 2 PC13 (io) "PC13/RTC_TAMP1,RTC_TS,RTC_OUT,WKUP2", 3 PC14-OSC32_IN(PC14) (io) "PC14/OSC32_IN", 4 PC15-OSC32_OUT(PC15) (io) "PC15/OSC32_OUT", 5 PF0-OSC_IN(PF0) (io) "PF0/OSC_IN", 6 PF1-OSC_OUT(PF1) (io) "PF1/OSC_OUT", 7 NRST (io) "Device reset input/internal reset output(active low)", 8 PC0 (io) "PC0/EVENTOUT/ADC_IN10", 9 PC1 (io) "PC1/EVENTOUT/ADC_IN11", 10 PC2 (io) "PC2/EVENTOUT/ADC_IN12", 11 PC3 (io) "PC3/EVENTOUT/ADC_IN13", 12 VSSA (power) "Analog ground", 13 VDDA (power) "Analog power supply", 14 PA0 (io) "PA0/USART2_CTS,TIM2_CH1_ETR,COMP1_OUT,TSC_G1_IO1/ADC_IN0,COMP1_INM6,RTC_TAMP2,WKUP1", 15 PA1 (io) "PA1/USART2_RTS,TIM2_CH2,TSC_G1_IO2,EVENTOUT/ADC_IN1,COMP1_INP", 16 PA2 (io) "PA2/USART2_TX,TIM2_CH3,TIM15_CH1,COMP2_OUT,TSC_G1_IO3/ADC_IN2,COMP2_INM6", 17 PA3 (io) "PA3/USART2_RX,TIM2_CH4,TIM15_CH2,TSC_G1_IO4/ADC_IN3,COMP2_INP", 18 PF4 (io) "PF4/EVENTOUT", 19 PF5 (io) "PF5/EVENTOUT", 20 PA4 (io) "PA4/SPI1_NSS,I2S1_WS,USART2_CK,TIM14_CH1,TSC_G2_IO1/ADC_IN4,COMP1_INM4,COMP2_INM4,DAC_OUT1", 21 PA5 (io) "PA5/SPI1_SCK,I2S1_CK,CEC,TIM2_CH1_ETR,TSC_G2_IO2/ADC_IN5,COMP1_INM5,COMP2_INM5", 22 PA6 (io) "PA6/SPI1_MISO,I2S1_MCK,TIM3_CH1,TIM1_BKIN,TIM16_CH1,COMP1_OUT,TSC_G2_IO3,EVENTOUT/ADC_IN6", 23 PA7 (io) "PA7/SPI1_MOSI,I2S1_SD,TIM3_CH2,TIM14_CH1,TIM1_CH1N,TIM17_CH1,COMP2_OUT,TSC_G2_IO4,EVENTOUT/ADC_IN7", 24 PC4 (io) "PC4/EVENTOUT/ADC_IN14", 25 PC5 (io) "PC5/TSC_G3_IO1/ADC_IN15", 26 PB0 (io) "PB0/TIM3_CH3,TIM1_CH2N,TSC_G3_IO2,EVENTOUT/ADC_IN8", 27 PB1 (io) "PB1/TIM3_CH4,TIM14_CH1,TIM1_CH3N,TSC_G3_IO3/ADC_IN9", 28 NPOR (in) "Device power-on reset input (active low)", 29 PB10 (io) "PB10/I2C2_SCL,CEC,TIM2_CH3,TSC_SYNC", 30 PB11 (io) "PB11/I2C2_SDA,TIM2_CH4,TSC_G6_IO1,EVENTOUT", 31 VSS (power) "Ground", 32 VDD (power) "Digital power supply", 33 PB12 (io) "PB12/SPI2_NSS,TIM1_BKIN,TSC_G6_IO2,EVENTOUT", 34 PB13 (io) "PB13/SPI2_SCK,TIM1_CH1N,TSC_G6_IO3", 35 PB14 (io) "PB14/SPI2_MISO,TIM1_CH2N,TIM15_CH1,TSC_G6_IO4", 36 PB15 (io) "PB15/SPI2_MOSI,TIM1_CH3N,TIM15_CH1N,TIM15_CH2/RTC_REFIN", 37 PC6 (io) "PC6/TIM3_CH1", 38 PC7 (io) "PC7/TIM3_CH2", 39 PC8 (io) "PC8/TIM3_CH3", 40 PC9 (io) "PC9/TIM3_CH4", 41 PA8 (io) "PA8/USART1_CK,TIM1_CH1,EVENTOUT,MCO", 42 PA9 (io) "PA9/USART1_TX,TIM1_CH2,TIM15_BKIN,TSC_G4_IO1", 43 PA10 (io) "PA10/USART1_RX,TIM1_CH3,TIM17_BKIN,TSC_G4_IO2", 44 PA11 (io) "PA11/USART1_CTS,TIM1_CH4,COMP1_OUT,TSC_G4_IO3,EVENTOUT", 45 PA12 (io) "PA12/USART1_RTS,TIM1_ETR,COMP2_OUT,TSC_G4_IO4,EVENTOUT", 46 PA13(SWDIO) (io) "PA13/IR_OUT,SWDIO", 47 PF6 (io) "PF6/I2C2_SCL", 48 PF7 (io) "PF7/I2C2_SDA", 49 PA14(SWCLK) (io) "PA14/USART2_TX,SWCLK", 50 PA15 (io) "PA15/SPI1_NSS,I2S1_WS,USART2_RX,TIM2_CH1_ETR,EVENTOUT", 51 PC10 (io), 52 PC11 (io), 53 PC12 (io), 54 PD2 (io) "PD2/TIM3_ETR", 55 PB3 (io) "PB3/SPI1_SCK,I2S1_CK,TIM2_CH2,TSC_G5_IO1,EVENTOUT", 56 PB4 (io) "PB4/SPI1_MISO,I2S1_MCK,TIM3_CH1,TSC_G5_IO2,EVENTOUT", 57 PB5 (io) "PB5/SPI1_MOSI,I2S1_SD,I2C1_SMBA,TIM16_BKIN,TIM3_CH2", 58 PB6 (io) "PB6/I2C1_SCL,USART1_TX,TIM16_CH1N,TSC_G5_IO3", 59 PB7 (io) "PB7/I2C1_SDA,USART1_RX,TIM17_CH1N,TSC_G5_IO4", 60 BOOT0 (in) "Boot memory selection", 61 PB8 (io) "PB8/I2C1_SCL,CEC,TIM16_CH1,TSC_SYNC", 62 PB9 (io) "PB9/I2C1_SDA,IR_OUT,TIM17_CH1,EVENTOUT", 63 VSS (power) "Ground", 64 VDD (power) "Digital power supply"

## STM32F058T8Y6TR
designator U?  Supplier Part Number 1: STM32F058T8Y6TR-ND  Supplier Part Number 2: 511-STM32F058T8Y6TR
ARM Cortex-M0 32-bit MCU, 64 KB Flash, 8 KB Internal RAM, 28 I/Os, 36-Pin WLCSP, -40 to 85 degC, Tape and Reel; Supply Voltage(Vcc) min (V): 1.65; FLASH Size (Prog) (kB): 64; Operating Frequency(F) (Processor speed) (MHz): 48; Internal RAM Size (kB): 8; D/A Converter: 1; I/Os (High Current): 38; Package Description: 36-Ball Wafer Level Chip Scale Package, 2.605 x 2.703 mm Body, 0.4 mm Pitch; Package Reference: WLCSP36-2605X2703DE; DatasheetVersion: Rev. 2; ComponentLink2URL: http://www.st.com/st-web-ui/static/active/en/resource/technical/document/datasheet/DM00059126.pdf; ComponentLink1Description: Manufacturer URL; Mounting Technology: Surface Mount; Packing: Tape and Reel; Core: ARM Cortex-M0; ComponentLink1URL: http://www.st.com/; ComponentLink2Description: Datasheet; Supplier 1: Digi-Key; Supplier 2: Mouser
footprint STM-WLCSP36-2605X2703DE_V (BGA, 36-Balls, Body 2.7x2.61mm, Pitch 0.4mm)
pins: A1 PA12 (io) "PA12/USART1_RTS,TIM1_ETR,COMP2_OUT,TSC_G4_IO4,EVENTOUT", A2 PA15 (io) "PA15/SPI1_NSS,I2S1_WS,USART2_RX,TIM2_CH1_ETR,EVENTOUT", A3 PB4 (io) "PB4/SPI1_MISO,I2S1_MCK,TIM3_CH1,TSC_G5_IO2,EVENTOUT", A4 PB7 (io) "PB7/I2C1_SDA,USART1_RX,TIM17_CH1N,TSC_G5_IO4", A5 VDD (power) "Digital power supply", A6 PC13 (io) "PC13/RTC_TAMP1,RTC_TS,RTC_OUT,WKUP2", B1 PA13(SWDIO) (io) "PA13(SWDIO)/IR_OUT,SWDIO", B2 PA14(SWCLK) (io) "PA14(SWCLK)/USART2_TX,SWCLK", B3 PB3 (io) "PB3/SPI1_SCK,I2S1_CK,TIM2_CH2,TSC_G5_IO1,EVENTOUT", B4 BOOT0 (in) "Boot memory selection", B5 PF0-OSC_IN(PF0) (io) "PF0-OSC_IN(PF0)/OSC_IN", B6 PC14-OSC32_IN(PC14) (io) "PC14-OSC32_IN(PC14)/OSC32_IN", C1 PA10 (io) "PA10/USART1_RX,TIM1_CH3,TIM17_BKIN,TSC_G4_IO2", C2 PA11 (io) "PA11/USART1_CTS,TIM1_CH4,COMP1_OUT,TSC_G4_IO3,EVENTOUT", C3 PA4 (io) "PA4/SPI1_NSS,I2S1_WS,USART2_CK,TIM14_CH1,TSC_G2_IO1/ADC_IN4,COMP1_INM4,COMP2_INM4,DAC_OUT1", C4 PB6 (io) "PB6/I2C1_SCL,USART1_TX,TIM16_CH1N,TSC_G5_IO3", C5 PF1-OSC_OUT(PF1) (io) "PF1-OSC_OUT(PF1)/OSC_OUT", C6 PC15-OSC32_OUT(PC15) (io) "PC15-OSC32_OUT(PC15)/OSC32_OUT", D1 PA9 (io) "PA9/USART1_TX,TIM1_CH2,TIM15_BKIN,TSC_G4_IO1", D2 PB1 (io) "PB1/TIM3_CH4,TIM14_CH1,TIM1_CH3N,TSC_G3_IO3/ADC_IN9", D3 PA5 (io) "PA5/SPI1_SCK,I2S1_CK,CEC,TIM2_CH1_ETR,TSC_G2_IO2/ADC_IN5,COMP1_INM5,COMP2_INM5", D4 PA1 (io) "PA1/USART2_RTS,TIM2_CH2,TSC_G1_IO2,EVENTOUT/ADC_IN1,COMP1_INP", D5 NRST (io) "Device reset input/internal reset output(active low)", D6 VSS (power) "Ground", E1 VDD (power) "Digital power supply", E2 PA8 (io) "PA8/USART1_CK,TIM1_CH1,EVENTOUT,MCO", E3 PA6 (io) "PA6/SPI1_MISO,I2S1_MCK,TIM3_CH1,TIM1_BKIN,TIM16_CH1,COMP1_OUT,TSC_G2_IO3,EVENTOUT/ADC_IN6", E4 PA2 (io) "PA2/USART2_TX,TIM2_CH3,TIM15_CH1,COMP2_OUT,TSC_G1_IO3/ADC_IN2,COMP2_INM6", E5 VDDA (power) "Analog power supply", E6 PB5 (io) "PB5/SPI1_MOSI,I2S1_SD,I2C1_SMBA,TIM16_BKIN,TIM3_CH2", F1 VSS (power) "Ground", F2 NPOR (in) "Device power-on reset input (active low)", F3 PB0 (io) "PB0/TIM3_CH3,TIM1_CH2N,TSC_G3_IO2,EVENTOUT/ADC_IN8", F4 PA7 (io) "PA7/SPI1_MOSI,I2S1_SD,TIM3_CH2,TIM14_CH1,TIM1_CH1N,TIM17_CH1,COMP2_OUT,TSC_G2_IO4,EVENTOUT/ADC_IN7", F5 PA3 (io) "PA3/USART2_RX,TIM2_CH4,TIM15_CH2,TSC_G1_IO4/ADC_IN3,COMP2_INP", F6 PA0 (io) "PA0/USART2_CTS,TIM2_CH1_ETR,COMP1_OUT,TSC_G1_IO1/ADC_IN0,COMP1_INM6,RTC_TAMP2,WKUP1"

## STM32F070CBT6TR
designator U?  Supplier Part Number 1: 497-15099-ND  Supplier Part Number 2: 511-STM32F070CBT6
ARM Cortex-M0 32-bit MCU, 128 KB Flash, 16 KB Internal RAM, 37 I/Os, 48-Pin LQFP, -40 to 85 degC, Tape and Reel; Supply Voltage(Vcc) min (V): 2.4; Internal RAM Size (kB): 16; FLASH Size (Prog) (kB): 128; Operating Frequency(F) (Processor speed) (MHz): 48; I/Os (High Current): 37; Package Reference: LQFP48; ComponentLink1URL: http://www.st.com/; ComponentLink1Description: Manufacturer URL; Core: ARM Cortex-M0; Packing: Tape and Reel; ComponentLink2Description: Datasheet; Mounting Technology: Surface Mount; DatasheetVersion: Rev. 3; ComponentLink2URL: http://www.st.com/st-web-ui/static/active/en/resource/technical/document/datasheet/DM00141386.pdf; Package Description: 48-Pin Low Profile Quad Flat Package, Body 7 x 7 mm, Pitch 0.5 mm; Supplier 1: Digi-Key; Supplier 2: Mouser
footprint STM-LQFP48_L (QFP, 48-Leads, Body 7x7mm, Pitch 0.5mm, IPC High Density)
footprint STM-LQFP48_M (QFP, 48-Leads, Body 7x7mm, Pitch 0.5mm, IPC Low Density)
footprint STM-LQFP48_N (QFP, 48-Leads, Body 7x7mm, Pitch 0.5mm, IPC Medium Density)
pins: 1 VDD (power) "Digital power supply", 2 PC13 (io) "PC13/WKUP2,RTC_TAMP1,RTC_TS,RTC_OUT", 3 PC14-OSC32_IN(PC14) (io) "PC14-OSC32_IN(PC14)/OSC32_IN", 4 PC15-OSC32_OUT(PC15) (io) "PC15-OSC32_OUT(PC15)/OSC32_OUT", 5 PF0-OSC_IN(PF0) (io) "PF0-OSC_IN(PF0)/OSC_IN", 6 PF1-OSC_OUT(PF1) (io) "PF1-OSC_OUT(PF1)/OSC_OUT", 7 NRST (io) "Device reset input/internal reset output(active low)", 8 VSSA (power) "Analog ground", 9 VDDA (power) "Analog power supply", 10 PA0 (io) "PA0/USART2_CTS,USART4_TX/RTC_TAMP2,WKUP1,ADC_IN0", 11 PA1 (io) "PA1/USART2_RTS,TIM15_CH1N,USART4_RX,EVENTOUT/ADC_IN1", 12 PA2 (io) "PA2/USART2_TX,TIM15_CH1/ADC_IN2,WKUP4", 13 PA3 (io) "PA3/USART2_RX,TIM15_CH2/ADC_IN3", 14 PA4 (io) "PA4/SPI1_NSS,TIM14_CH1,USART2_CK/ADC_IN4", 15 PA5 (io) "PA5/SPI1_SCK/ADC_IN5", 16 PA6 (io) "PA6/SPI1_MISO,TIM3_CH1,TIM1_BKIN,TIM16_CH1,EVENTOUT,USART3_CTS/ADC_IN6", 17 PA7 (io) "PA7/SPI1_MOSI,TIM3_CH2,TIM14_CH1,TIM1_CH1N,TIM17_CH1,EVENTOUT/ADC_IN7", 18 PB0 (io) "PB0/TIM3_CH3,TIM1_CH2N,EVENTOUT,USART3_CK/ADC_IN8", 19 PB1 (io) "PB1/TIM3_CH4,USART3_RTS,TIM14_CH1,TIM1_CH3N/ADC_IN9", 20 PB2 (io), 21 PB10 (io) "PB10/SPI2_SCK,USART3_TX", 22 PB11 (io) "PB11/USART3_RX,EVENTOUT,I2C2_SDA", 23 VSS (power) "Ground", 24 VDD (power) "Digital power supply", 25 PB12 (io) "PB12/TIM1_BKIN,TIM15_BKIN,SPI2_NSS,EVENTOUT,USART3_CK", 26 PB13 (io) "PB13/SPI2_SCK,I2C2_SCL,TIM1_CH1N,USART3_CTS", 27 PB14 (io) "PB14/SPI2_MISO,I2C2_SDA,TIM1_CH2N,TIM15_CH1,USART3_RTS", 28 PB15 (io) "PB15/SPI2_MOSI,TIM1_CH3N,TIM15_CH1N,TIM15_CH2/WKUP7,RTC_REFIN", 29 PA8 (io) "PA8/USART1_CK,TIM1_CH1,EVENTOUT,MCO", 30 PA9 (io) "PA9/USART1_TX,TIM1_CH2,TIM15_BKIN", 31 PA10 (io) "PA10/USART1_RX,TIM1_CH3,TIM17_BKIN", 32 PA11 (io) "PA11/USART1_CTS,TIM1_CH4,EVENTOUT/USB_DM", 33 PA12 (io) "PA12/USART1_RTS,TIM1_ETR,EVENTOUT/USB_DP", 34 PA13(SWDIO) (io) "PA13(SWDIO)/IR_OUT,SWDIO,USB_NOE", 35 VSS (power) "Ground", 36 VDD (power) "Digital power supply", 37 PA14(SWCLK) (io) "PA14(SWCLK)/USART2_TX,SWCLK", 38 PA15 (io) "PA15/SPI1_NSS,USART2_RX,USART4_RTS,EVENTOUT", 39 PB3 (io) "PB3/SPI1_SCK,EVENTOUT", 40 PB4 (io) "PB4/SPI1_MISO,TIM17_BKIN,TIM3_CH1,EVENTOUT", 41 PB5 (io) "PB5/SPI1_MOSI,I2C1_SMBA,TIM16_BKIN,TIM3_CH2/WKUP6", 42 PB6 (io) "PB6/I2C1_SCL,USART1_TX,TIM16_CH1N", 43 PB7 (io) "PB7/I2C1_SDA,USART1_RX,USART4_CTS,TIM17_CH1N", 44 BOOT0 (in) "Boot memory selection", 45 PB8 (io) "PB8/I2C1_SCL,TIM16_CH1", 46 PB9 (io) "PB9/SPI2_NSS,I2C1_SDA,IR_OUT,TIM17_CH1,EVENTOUT", 47 VSS (power) "Ground", 48 VDD (power) "Digital power supply"

## STM32F070F6P6
designator U?  Supplier Part Number 1: 511-STM32F070F6P6  Supplier Part Number 2: 497-17353-ND
ARM Cortex-M0 32-bit MCU, 32 KB Flash, 6 KB Internal RAM, 15 I/Os, 20-Pin TSSOP, -40 to 85 degC, Tray; FLASH Size (Prog) (kB): 32; I/Os (High Current): 15; Operating Frequency(F) (Processor speed) (MHz): 48; Supply Voltage(Vcc) min (V): 2.4; Internal RAM Size (kB): 6; ComponentLink2URL: http://www.st.com/st-web-ui/static/active/en/resource/technical/document/datasheet/DM00141386.pdf; ComponentLink1URL: http://www.st.com/; Core: ARM Cortex-M0; Packing: Tray; ComponentLink2Description: Datasheet; Package Reference: TSSOP20; Mounting Technology: Surface Mount; Package Description: 20-Pin Thin Shrink Small Outline Package, Body 6.5 x 4.4 mm, Pitch 0.65 mm; ComponentLink1Description: Manufacturer URL; DatasheetVersion: Rev. 3; Supplier 1: Mouser; Supplier 2: Digi-Key
footprint STM-TSSOP20_N (SOP, 20-Leads, Body 6.6x4.5mm, Pitch 0.65mm, IPC Medium Density)
footprint STM-TSSOP20_L (SOP, 20-Leads, Body 6.6x4.5mm, Pitch 0.65mm, IPC High Density)
footprint STM-TSSOP20_M (SOP, 20-Leads, Body 6.6x4.5mm, Pitch 0.65mm, IPC Low Density)
pins: 1 BOOT0 (in) "Boot memory selection", 2 PF0-OSC_IN(PF0) (io) "PF0/I2C1_SDA/OSC_IN", 3 PF1-OSC_OUT(PF1) (io) "PF1/I2C1_SCL/OSC_OUT", 4 NRST (io) "Device reset input/internal reset output(active low)", 5 VDDA (power) "Analog power supply", 6 PA0 (io) "PA0/USART2_CTS,USART4_TX/RTC_ TAMP2,WKUP1,ADC_IN0", 7 PA1 (io) "PA1/USART2_RTS,USART4_RX,EVENTOUT/ADC_IN1", 8 PA2 (io) "PA2/USART2_TX/ADC_IN2", 9 PA3 (io) "PA3/USART2_RX/ADC_IN3", 10 PA4 (io) "PA4/SPI1_NSS,TIM14_CH1,USART2_CK,USB_NOE/ADC_IN4", 11 PA5 (io) "PA5/SPI1_SCK/ADC_IN5", 12 PA6 (io) "PA6/SPI1_MISO,TIM3_CH1,TIM1_BKIN,TIM16_CH1,EVENTOUT,USART3_CTS/ADC_IN6", 13 PA7 (io) "PA7/SPI1_MOSI,TIM3_CH2,TIM14_CH1,TIM1_CH1N,TIM17_CH1,EVENTOUT/ADC_IN7", 14 PB1 (io) "PB1/TIM3_CH4,TIM14_CH1,TIM1_CH3N/ADC_IN9", 15 VSS (power) "Ground", 16 VDD (power) "Digital power supply", 17 PA11 (io) "PA11/USART1_CTS,TIM1_CH4,EVENTOUT/USB_DM", 18 PA12 (io) "PA12/USART1_RTS,TIM1_ETR, EVENTOUT/USB_DP", 19 PA13 (io) "PA13/IR_OUT,SWDIO,USB_NOE", 20 PA14 (io) "PA14/USART2_TX,SWCLK"

## STM32F071CBT6TR
designator U?  Supplier Part Number 1: 511-STM32F071CBT6  Supplier Part Number 2: 497-15825-ND
ARM Cortex-M0 32-bit MCU, 128 KB Flash, 16 KB Internal RAM, 37 I/Os, 48-Pin LQFP, -40 to 85 degC, Tape and Reel; Supply Voltage(Vcc) min (V): 2; Operating Frequency(F) (Processor speed) (MHz): 48; I/Os (High Current): 37; Internal RAM Size (kB): 16; FLASH Size (Prog) (kB): 128; Core: ARM Cortex-M0; Packing: Tape and Reel; Mounting Technology: Surface Mount; ComponentLink1Description: Manufacturer URL; ComponentLink2Description: Datasheet; ComponentLink1URL: http://www.st.com/; DatasheetVersion: Rev. 6; D/A Converter: 2; Package Description: 48-Pin Low Profile Quad Flat Package, Body 7 x 7 mm, Pitch 0.5 mm; Package Reference: LQFP48; ComponentLink2URL: http://www.st.com/st-web-ui/static/active/en/resource/technical/document/datasheet/DM00098745.pdf; Supplier 1: Mouser; Supplier 2: Digi-Key
footprint STM-LQFP48_L (QFP, 48-Leads, Body 7x7mm, Pitch 0.5mm, IPC High Density)
footprint STM-LQFP48_M (QFP, 48-Leads, Body 7x7mm, Pitch 0.5mm, IPC Low Density)
footprint STM-LQFP48_N (QFP, 48-Leads, Body 7x7mm, Pitch 0.5mm, IPC Medium Density)
pins: 1 VBAT (power) "Backup power supply", 2 PC13 (io) "PC13/WKUP2,RTC_TAMP1,RTC_TS,RTC_OUT", 3 PC14-OSC32_IN(PC14) (io) "PC14-OSC32_IN(PC14)/OSC32_IN", 4 PC15-OSC32_OUT(PC15) (io) "PC15-OSC32_OUT(PC15)/OSC32_OUT", 5 PF0-OSC_IN(PF0) (io) "PF0-OSC_IN(PF0)/CRS_SYNC/OSC_IN", 6 PF1-OSC_OUT(PF1) (io) "PF1-OSC_OUT(PF1)/OSC_OUT", 7 NRST (io) "Device reset input/internal reset output(active low)", 8 VSSA (power) "Analog ground", 9 VDDA (power) "Analog power supply", 10 PA0 (io) "PA0/USART2_CTS,TIM2_CH1_ETR,TSC_G1_IO1,USART4_TX/RTC_TAMP2,WKUP1,COMP1_OUT,ADC_IN0,COMP1_INM6", 11 PA1 (io) "PA1/USART2_RTS,TIM2_CH2,TIM15_CH1N,TSC_G1_IO2,USART4_RX,EVENTOUT/ADC_IN1,COMP1_INP", 12 PA2 (io) "PA2/USART2_TX,TIM2_CH3,TIM15_CH1,TSC_G1_IO3/ADC_IN2,COMP2_OUT,COMP2_INM6,WKUP4", 13 PA3 (io) "PA3/USART2_RX,TIM2_CH4,TIM15_CH2,TSC_G1_IO4/ADC_IN3,COMP2_INP", 14 PA4 (io) "PA4/SPI1_NSS,I2S1_WS,TIM14_CH1,TSC_G2_IO1,USART2_CK/COMP1_INM4,COMP2_INM4,ADC_IN4,DAC_OUT1", 15 PA5 (io) "PA5/SPI1_SCK,I2S1_CK,CEC,TIM2_CH1_ETR,TSC_G2_IO2/COMP1_INM5,COMP2_INM5,ADC_IN5,DAC_OUT2", 16 PA6 (io) "PA6/SPI1_MISO,I2S1_MCK,TIM3_CH1,TIM1_BKIN,TIM16_CH1,COMP1_OUT,TSC_G2_IO3,EVENTOUT,USART3_CTS/ADC_IN6", 17 PA7 (io) "PA7/SPI1_MOSI,I2S1_SD,TIM3_CH2,TIM14_CH1,TIM1_CH1N,TIM17_CH1,COMP2_OUT,TSC_G2_IO4,EVENTOUT/ADC_IN7", 18 PB0 (io) "PB0/TIM3_CH3,TIM1_CH2N,TSC_G3_IO2,EVENTOUT,USART3_CK/ADC_IN8", 19 PB1 (io) "PB1/TIM3_CH4,USART3_RTS,TIM14_CH1,TIM1_CH3N,TSC_G3_IO3/ADC_IN9", 20 PB2 (io) "PB2/TSC_G3_IO4", 21 PB10 (io) "PB10/SPI2_SCK,I2C2_SCL,USART3_TX,CEC,TSC_SYNC,TIM2_CH3", 22 PB11 (io) "PB11/USART3_RX,TIM2_CH4,EVENTOUT,TSC_G6_IO1,I2C2_SDA", 23 VSS (power) "Ground", 24 VDD (power) "Digital power supply", 25 PB12 (io) "PB12/TIM1_BKIN,TIM15_BKIN,SPI2_NSS,I2S2_WS,USART3_CK,TSC_G6_IO2,EVENTOUT", 26 PB13 (io) "PB13/SPI2_SCK,I2S2_CK,I2C2_SCL,USART3_CTS,TIM1_CH1N,TSC_G6_IO3", 27 PB14 (io) "PB14/SPI2_MISO,I2S2_MCK,I2C2_SDA,USART3_RTS,TIM1_CH2N,TIM15_CH1,TSC_G6_IO4", 28 PB15 (io) "PB15/SPI2_MOSI,I2S2_SD,TIM1_CH3N,TIM15_CH1N,TIM15_CH2/WKUP7,RTC_REFIN", 29 PA8 (io) "PA8/USART1_CK,TIM1_CH1,EVENTOUT,MCO,CRS_SYNC", 30 PA9 (io) "PA9/USART1_TX,TIM1_CH2,TIM15_BKIN,TSC_G4_IO1", 31 PA10 (io) "PA10/USART1_RX,TIM1_CH3,TIM17_BKIN,TSC_G4_IO2", 32 PA11 (io) "PA11/USART1_CTS,TIM1_CH4,COMP1_OUT,TSC_G4_IO3,EVENTOUT", 33 PA12 (io) "PA12/USART1_RTS,TIM1_ETR,COMP2_OUT,TSC_G4_IO4,EVENTOUT", 34 PA13 (io) "PA13/IR_OUT,SWDIO", 35 VSS (power) "Ground", 36 VDDIO2 (power) "Digital power supply", 37 PA14 (io) "PA14/USART2_TX,SWCLK", 38 PA15 (io) "PA15/SPI1_NSS,I2S1_WS,USART2_RX,USART4_RTS,TIM2_CH1_ETR,EVENTOUT", 39 PB3 (io) "PB3/SPI1_SCK,I2S1_CK,TIM2_CH2,TSC_G5_IO1,EVENTOUT", 40 PB4 (io) "PB4/SPI1_MISO,I2S1_MCK,TIM17_BKIN,TIM3_CH1,TSC_G5_IO2,EVENTOUT", 41 PB5 (io) "PB5/SPI1_MOSI,I2S1_SD,I2C1_SMBA,TIM16_BKIN,TIM3_CH2/WKUP6", 42 PB6 (io) "PB6/I2C1_SCL,USART1_TX,TIM16_CH1N,TSC_G5_IO3", 43 PB7 (io) "PB7/I2C1_SDA,USART1_RX,USART4_CTS,TIM17_CH1N,TSC_G5_IO4", 44 BOOT0 (in) "Boot memory selection", 45 PB8 (io) "PB8/I2C1_SCL,CEC,TIM16_CH1,TSC_SYNC", 46 PB9 (io) "PB9/SPI2_NSS,I2S2_WS,I2C1_SDA,IR_OUT,TIM17_CH1,EVENTOUT", 47 VSS (power) "Ground", 48 VDD (power) "Digital power supply"

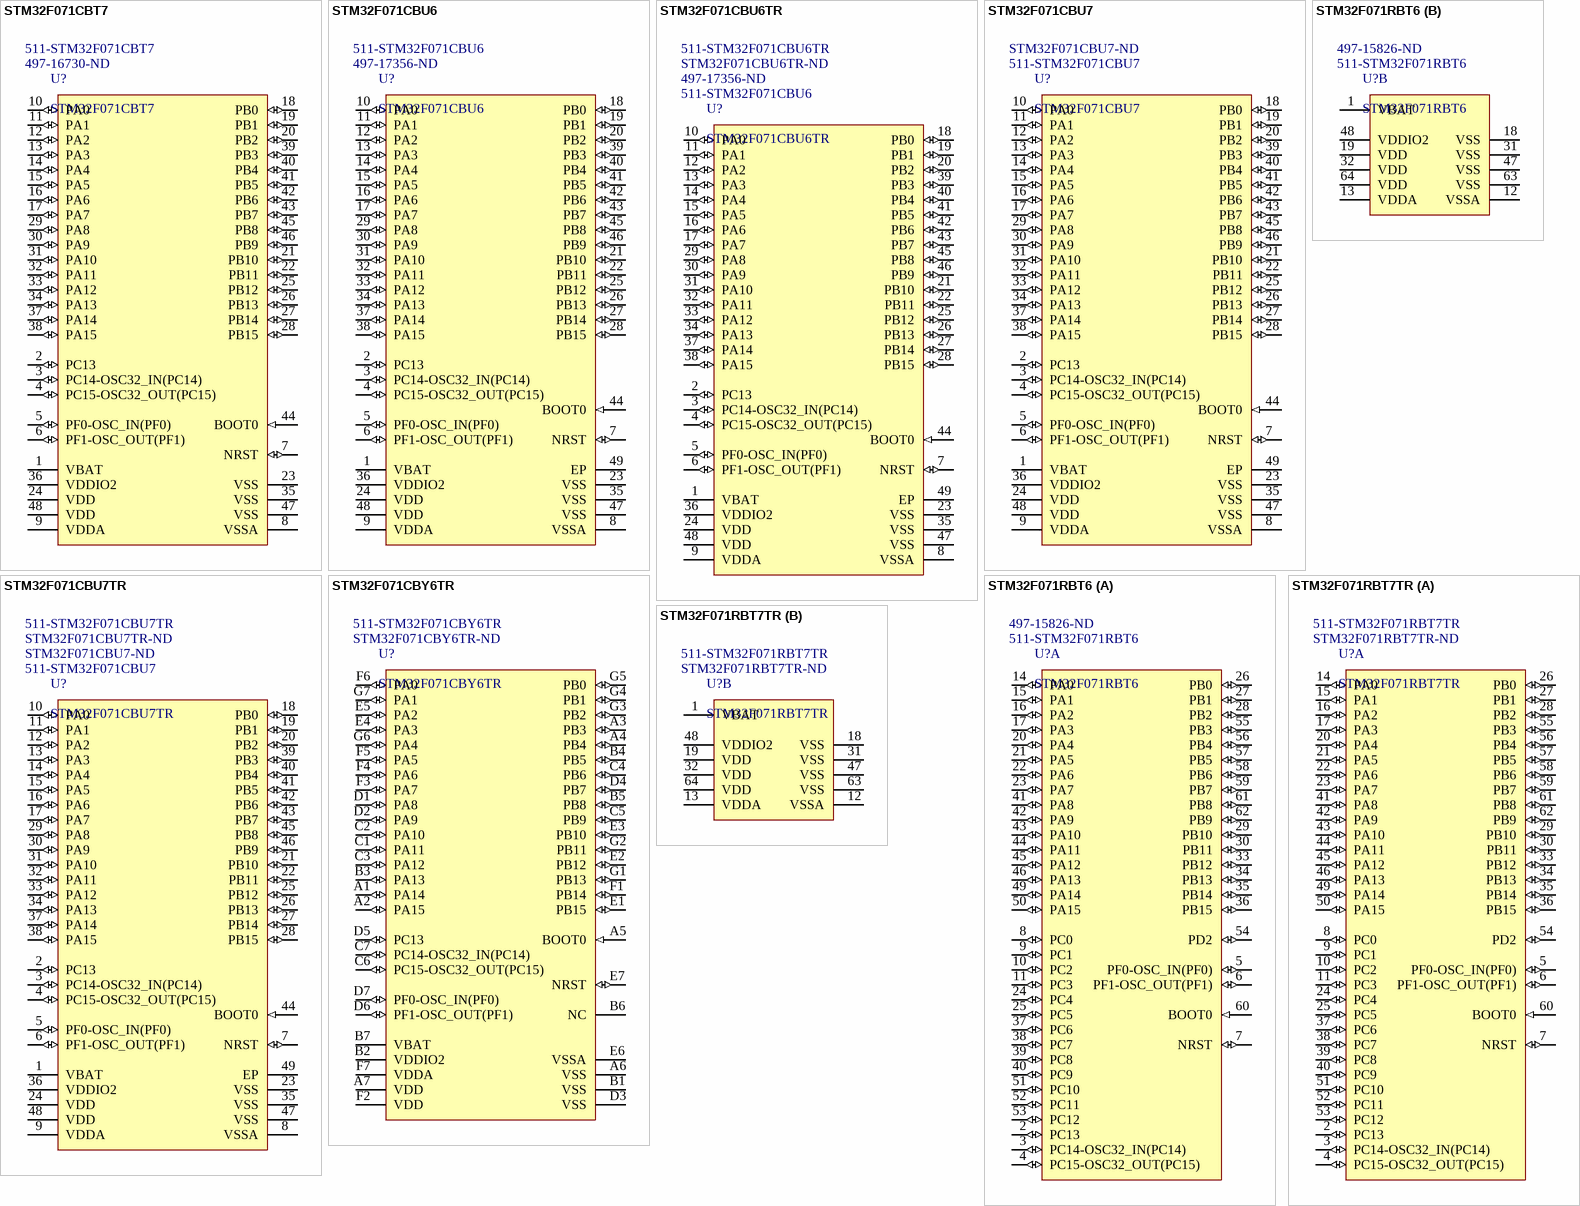
[diagram p12: symbols STM32F071CBT7 to STM32F071RBT7TR]

## STM32F071CBT7
designator U?  Supplier Part Number 1: 497-16730-ND  Supplier Part Number 2: 511-STM32F071CBT7
ARM Cortex-M0 32-bit MCU, 128 KB Flash, 16 KB Internal RAM, 37 I/Os, 48-Pin LQFP, -40 to 105 degC, Tray; D/A Converter: 2; Internal RAM Size (kB): 16; I/Os (High Current): 37; Operating Frequency(F) (Processor speed) (MHz): 48; FLASH Size (Prog) (kB): 128; Core: ARM Cortex-M0; ComponentLink1Description: Manufacturer URL; Mounting Technology: Surface Mount; Supply Voltage(Vcc) min (V): 2; DatasheetVersion: Rev. 6; ComponentLink1URL: http://www.st.com/; Packing: Tray; ComponentLink2URL: http://www.st.com/st-web-ui/static/active/en/resource/technical/document/datasheet/DM00098745.pdf; ComponentLink2Description: Datasheet; Package Description: 48-Pin Low Profile Quad Flat Package, Body 7 x 7 mm, Pitch 0.5 mm; Package Reference: LQFP48; Supplier 1: Digi-Key; Supplier 2: Mouser
footprint STM-LQFP48_L (QFP, 48-Leads, Body 7x7mm, Pitch 0.5mm, IPC High Density)
footprint STM-LQFP48_M (QFP, 48-Leads, Body 7x7mm, Pitch 0.5mm, IPC Low Density)
footprint STM-LQFP48_N (QFP, 48-Leads, Body 7x7mm, Pitch 0.5mm, IPC Medium Density)
pins: 1 VBAT (power) "Backup power supply", 2 PC13 (io) "PC13/WKUP2,RTC_TAMP1,RTC_TS,RTC_OUT", 3 PC14-OSC32_IN(PC14) (io) "PC14-OSC32_IN(PC14)/OSC32_IN", 4 PC15-OSC32_OUT(PC15) (io) "PC15-OSC32_OUT(PC15)/OSC32_OUT", 5 PF0-OSC_IN(PF0) (io) "PF0-OSC_IN(PF0)/CRS_SYNC/OSC_IN", 6 PF1-OSC_OUT(PF1) (io) "PF1-OSC_OUT(PF1)/OSC_OUT", 7 NRST (io) "Device reset input/internal reset output(active low)", 8 VSSA (power) "Analog ground", 9 VDDA (power) "Analog power supply", 10 PA0 (io) "PA0/USART2_CTS,TIM2_CH1_ETR,TSC_G1_IO1,USART4_TX/RTC_TAMP2,WKUP1,COMP1_OUT,ADC_IN0,COMP1_INM6", 11 PA1 (io) "PA1/USART2_RTS,TIM2_CH2,TIM15_CH1N,TSC_G1_IO2,USART4_RX,EVENTOUT/ADC_IN1,COMP1_INP", 12 PA2 (io) "PA2/USART2_TX,TIM2_CH3,TIM15_CH1,TSC_G1_IO3/ADC_IN2,COMP2_OUT,COMP2_INM6,WKUP4", 13 PA3 (io) "PA3/USART2_RX,TIM2_CH4,TIM15_CH2,TSC_G1_IO4/ADC_IN3,COMP2_INP", 14 PA4 (io) "PA4/SPI1_NSS,I2S1_WS,TIM14_CH1,TSC_G2_IO1,USART2_CK/COMP1_INM4,COMP2_INM4,ADC_IN4,DAC_OUT1", 15 PA5 (io) "PA5/SPI1_SCK,I2S1_CK,CEC,TIM2_CH1_ETR,TSC_G2_IO2/COMP1_INM5,COMP2_INM5,ADC_IN5,DAC_OUT2", 16 PA6 (io) "PA6/SPI1_MISO,I2S1_MCK,TIM3_CH1,TIM1_BKIN,TIM16_CH1,COMP1_OUT,TSC_G2_IO3,EVENTOUT,USART3_CTS/ADC_IN6", 17 PA7 (io) "PA7/SPI1_MOSI,I2S1_SD,TIM3_CH2,TIM14_CH1,TIM1_CH1N,TIM17_CH1,COMP2_OUT,TSC_G2_IO4,EVENTOUT/ADC_IN7", 18 PB0 (io) "PB0/TIM3_CH3,TIM1_CH2N,TSC_G3_IO2,EVENTOUT,USART3_CK/ADC_IN8", 19 PB1 (io) "PB1/TIM3_CH4,USART3_RTS,TIM14_CH1,TIM1_CH3N,TSC_G3_IO3/ADC_IN9", 20 PB2 (io) "PB2/TSC_G3_IO4", 21 PB10 (io) "PB10/SPI2_SCK,I2C2_SCL,USART3_TX,CEC,TSC_SYNC,TIM2_CH3", 22 PB11 (io) "PB11/USART3_RX,TIM2_CH4,EVENTOUT,TSC_G6_IO1,I2C2_SDA", 23 VSS (power) "Ground", 24 VDD (power) "Digital power supply", 25 PB12 (io) "PB12/TIM1_BKIN,TIM15_BKIN,SPI2_NSS,I2S2_WS,USART3_CK,TSC_G6_IO2,EVENTOUT", 26 PB13 (io) "PB13/SPI2_SCK,I2S2_CK,I2C2_SCL,USART3_CTS,TIM1_CH1N,TSC_G6_IO3", 27 PB14 (io) "PB14/SPI2_MISO,I2S2_MCK,I2C2_SDA,USART3_RTS,TIM1_CH2N,TIM15_CH1,TSC_G6_IO4", 28 PB15 (io) "PB15/SPI2_MOSI,I2S2_SD,TIM1_CH3N,TIM15_CH1N,TIM15_CH2/WKUP7,RTC_REFIN", 29 PA8 (io) "PA8/USART1_CK,TIM1_CH1,EVENTOUT,MCO,CRS_SYNC", 30 PA9 (io) "PA9/USART1_TX,TIM1_CH2,TIM15_BKIN,TSC_G4_IO1", 31 PA10 (io) "PA10/USART1_RX,TIM1_CH3,TIM17_BKIN,TSC_G4_IO2", 32 PA11 (io) "PA11/USART1_CTS,TIM1_CH4,COMP1_OUT,TSC_G4_IO3,EVENTOUT", 33 PA12 (io) "PA12/USART1_RTS,TIM1_ETR,COMP2_OUT,TSC_G4_IO4,EVENTOUT", 34 PA13 (io) "PA13/IR_OUT,SWDIO", 35 VSS (power) "Ground", 36 VDDIO2 (power) "Digital power supply", 37 PA14 (io) "PA14/USART2_TX,SWCLK", 38 PA15 (io) "PA15/SPI1_NSS,I2S1_WS,USART2_RX,USART4_RTS,TIM2_CH1_ETR,EVENTOUT", 39 PB3 (io) "PB3/SPI1_SCK,I2S1_CK,TIM2_CH2,TSC_G5_IO1,EVENTOUT", 40 PB4 (io) "PB4/SPI1_MISO,I2S1_MCK,TIM17_BKIN,TIM3_CH1,TSC_G5_IO2,EVENTOUT", 41 PB5 (io) "PB5/SPI1_MOSI,I2S1_SD,I2C1_SMBA,TIM16_BKIN,TIM3_CH2/WKUP6", 42 PB6 (io) "PB6/I2C1_SCL,USART1_TX,TIM16_CH1N,TSC_G5_IO3", 43 PB7 (io) "PB7/I2C1_SDA,USART1_RX,USART4_CTS,TIM17_CH1N,TSC_G5_IO4", 44 BOOT0 (in) "Boot memory selection", 45 PB8 (io) "PB8/I2C1_SCL,CEC,TIM16_CH1,TSC_SYNC", 46 PB9 (io) "PB9/SPI2_NSS,I2S2_WS,I2C1_SDA,IR_OUT,TIM17_CH1,EVENTOUT", 47 VSS (power) "Ground", 48 VDD (power) "Digital power supply"